# Altium integrated library Renesas Microcontroller H8.IntLib: 489 symbols (part 12 of 25)
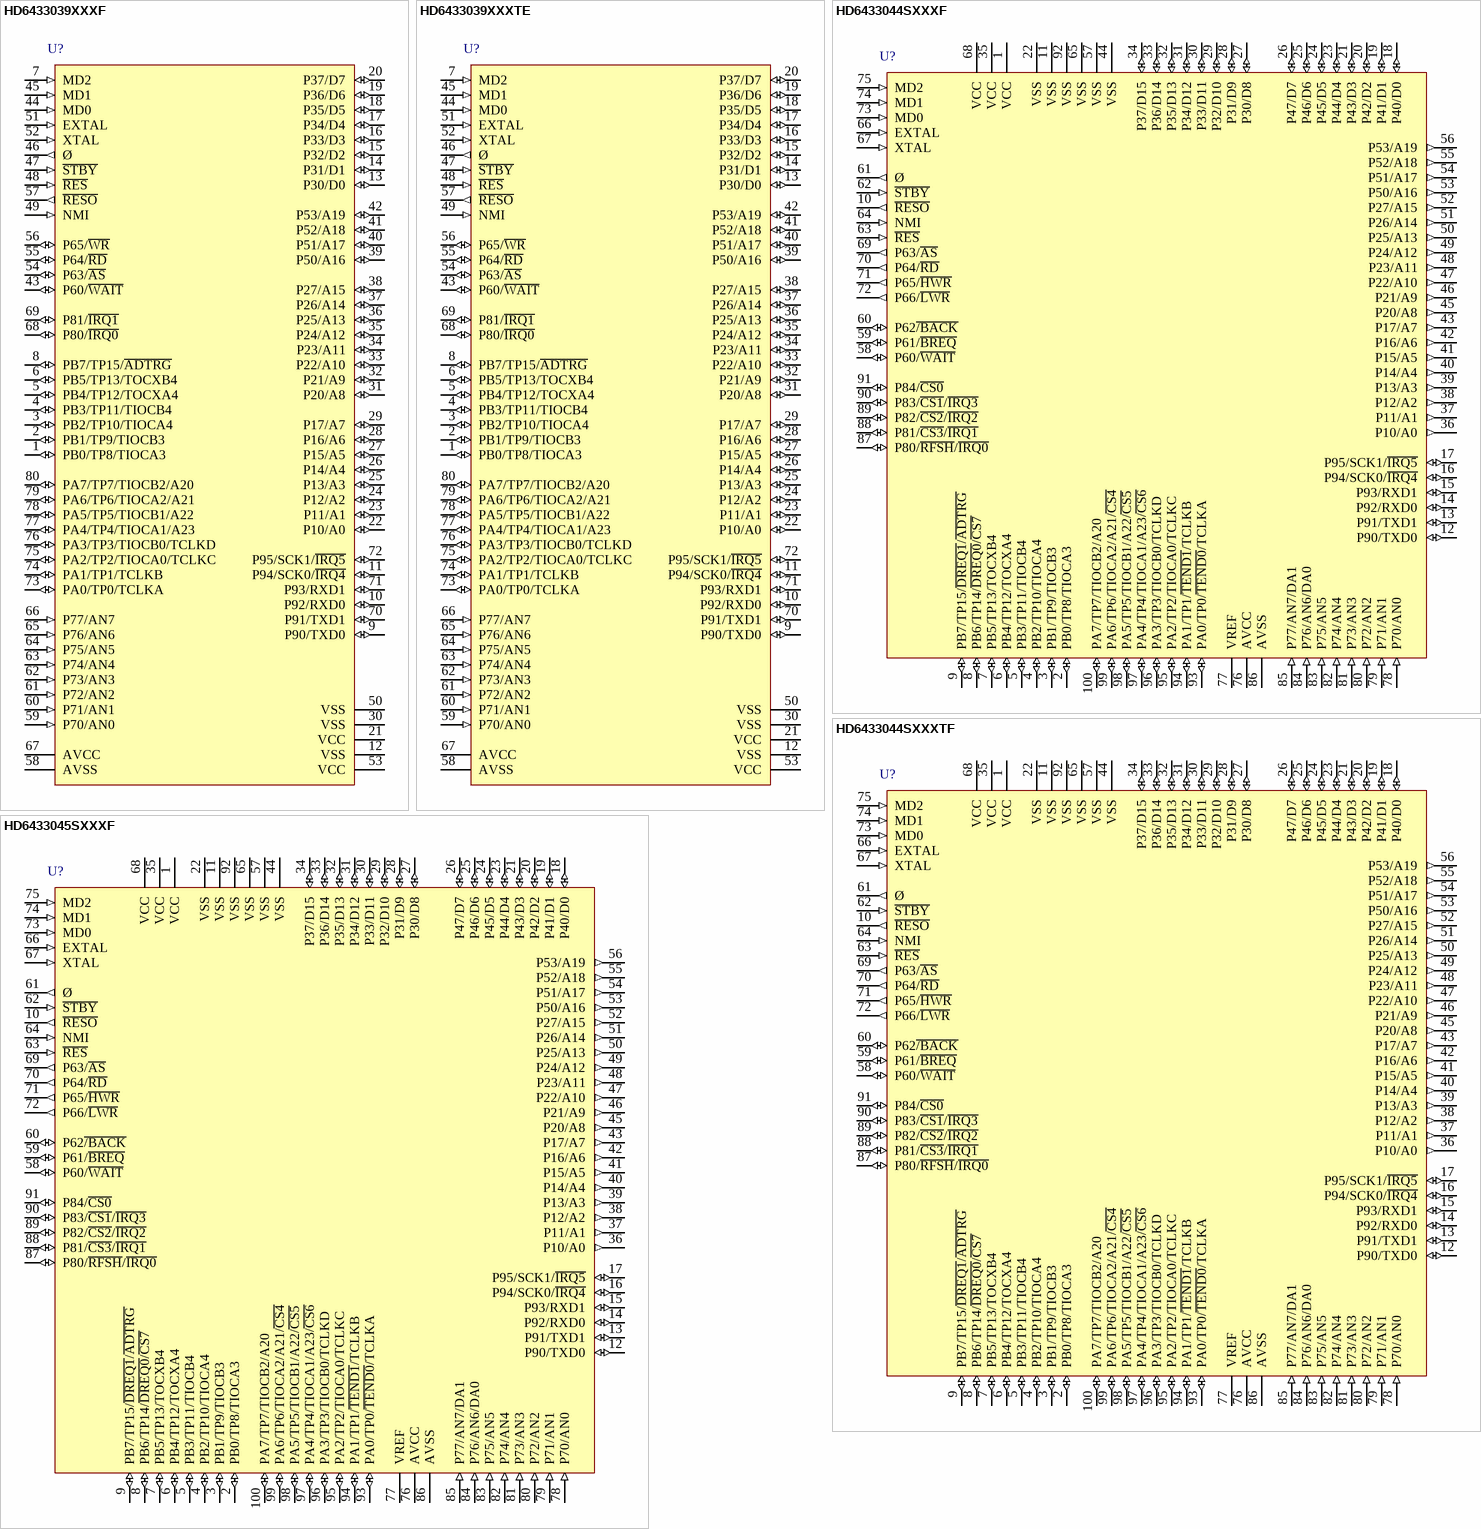
[diagram p99: symbols HD6433039XXXF to HD6433045SXXXF]

## HD6433045SXXXF
designator U?
H8 Family 32/16-bit CISC, H8/300H, 64K ROM, 2K RAM, 18MHz, 4.5 to 5.5V, 100-Pin QFP; Published: 28-Aug-2009; DatasheetVersion: Rev.3.00, Sep-2006; PackageVersion: Sep-2009; PackageReference: PRQP0100KA-A; Publisher: Altium Limited; PackageDescription: 100-Pin Plastic Quad Flat Pack, 14 x 14 x 2.7 mm Body, 0.5 mm Pitch; Code_JEITA: P-QFP100-14x14-0.50; ComponentLink1Description: Manufacturer Link; ComponentLink1URL: http://sg.renesas.com/fmwk.jsp?cnt=h8_family_landing.jsp&fp=/products/mpumcu/h8_family/; ComponentLink2Description: Datasheet; ComponentLink2URL: http://documentation.renesas.com/eng/products/mpumcu/rej09b0259_3048hm.pdf; ComponentLink3Description: Packaging Specification; ComponentLink3URL: http://sg.renesas.com/media/products/common_info/package/pdf/ic/code/prqp0100ka_a.pdf
footprint PRQP0100KA-A_N (Shrink QFP, 100-Leads, Body 14x14mm, Pitch 0.5mm, IPC Medium Density)
footprint PRQP0100KA-A_L (Shrink QFP, 100-Leads, Body 14x14mm, Pitch 0.5mm, IPC High Density)
footprint PRQP0100KA-A_M (Shrink QFP, 100-Leads, Body 14x14mm, Pitch 0.5mm, IPC Low Density)
pins: 1 VCC (power), 2 PB0/TP8/TIOCA3 (io), 3 PB1/TP9/TIOCB3 (io), 4 PB2/TP10/TIOCA4 (io), 5 PB3/TP11/TIOCB4 (io), 6 PB4/TP12/TOCXA4 (io), 7 PB5/TP13/TOCXB4 (io), 8 PB6/TP14/~{DREQ0}/~{CS7} (io), 9 PB7/TP15/~{DREQ1}/~{ADTRG} (io), 10 ~{RESO} (out), 11 VSS (power), 12 P90/TXD0 (io), 13 P91/TXD1 (io), 14 P92/RXD0 (io), 15 P93/RXD1 (io), 16 P94/SCK0/~{IRQ4} (io), 17 P95/SCK1/~{IRQ5} (io), 18 P40/D0 (io), 19 P41/D1 (io), 20 P42/D2 (io), 21 P43/D3 (io), 22 VSS (power), 23 P44/D4 (io), 24 P45/D5 (io), 25 P46/D6 (io), 26 P47/D7 (io), 27 P30/D8 (io), 28 P31/D9 (io), 29 P32/D10 (io), 30 P33/D11 (io), 31 P34/D12 (io), 32 P35/D13 (io), 33 P36/D14 (io), 34 P37/D15 (io), 35 VCC (power), 36 P10/A0 (out), 37 P11/A1 (out), 38 P12/A2 (out), 39 P13/A3 (out), 40 P14/A4 (out), 41 P15/A5 (out), 42 P16/A6 (out), 43 P17/A7 (out), 44 VSS (power), 45 P20/A8 (out), 46 P21/A9 (out), 47 P22/A10 (out), 48 P23/A11 (out), 49 P24/A12 (out), 50 P25/A13 (out), 51 P26/A14 (out), 52 P27/A15 (out), 53 P50/A16 (out), 54 P51/A17 (out), 55 P52/A18 (out), 56 P53/A19 (out), 57 VSS (power), 58 P60/~{WAIT} (io), 59 P61/~{BREQ} (io), 60 P62~{/BACK} (io), 61 Ø (out), 62 ~{STBY} (in), 63 ~{RES} (in), 64 NMI (in), 65 VSS (power), 66 EXTAL (in), 67 XTAL (in), 68 VCC (power), 69 P63/~{AS} (out), 70 P64/~{RD} (out), 71 P65/~{HWR} (out), 72 P66/~{LWR} (out), 73 MD0 (in), 74 MD1 (in), 75 MD2 (in), 76 AVCC (power), 77 VREF (power), 78 P70/AN0 (in), 79 P71/AN1 (in), 80 P72/AN2 (in), 81 P73/AN3 (in), 82 P74/AN4 (in), 83 P75/AN5 (in), 84 P76/AN6/DA0 (in), 85 P77/AN7/DA1 (in), 86 AVSS (power), 87 P80/~{RFSH}/~{IRQ0} (io), 88 P81/~{CS3}/~{IRQ1} (io), 89 P82/~{CS2}/~{IRQ2} (io), 90 P83/~{CS1}/~{IRQ3} (io), 91 P84/~{CS0} (io), 92 VSS (power), 93 PA0/TP0/~{TEND0}/TCLKA (io), 94 PA1/TP1/~{TEND1}/TCLKB (io), 95 PA2/TP2/TIOCA0/TCLKC (io), 96 PA3/TP3/TIOCB0/TCLKD (io), 97 PA4/TP4/TIOCA1/A23/~{CS6} (io), 98 PA5/TP5/TIOCB1/A22/~{CS5} (io), 99 PA6/TP6/TIOCA2/A21/~{CS4} (io), 100 PA7/TP7/TIOCB2/A20 (io)

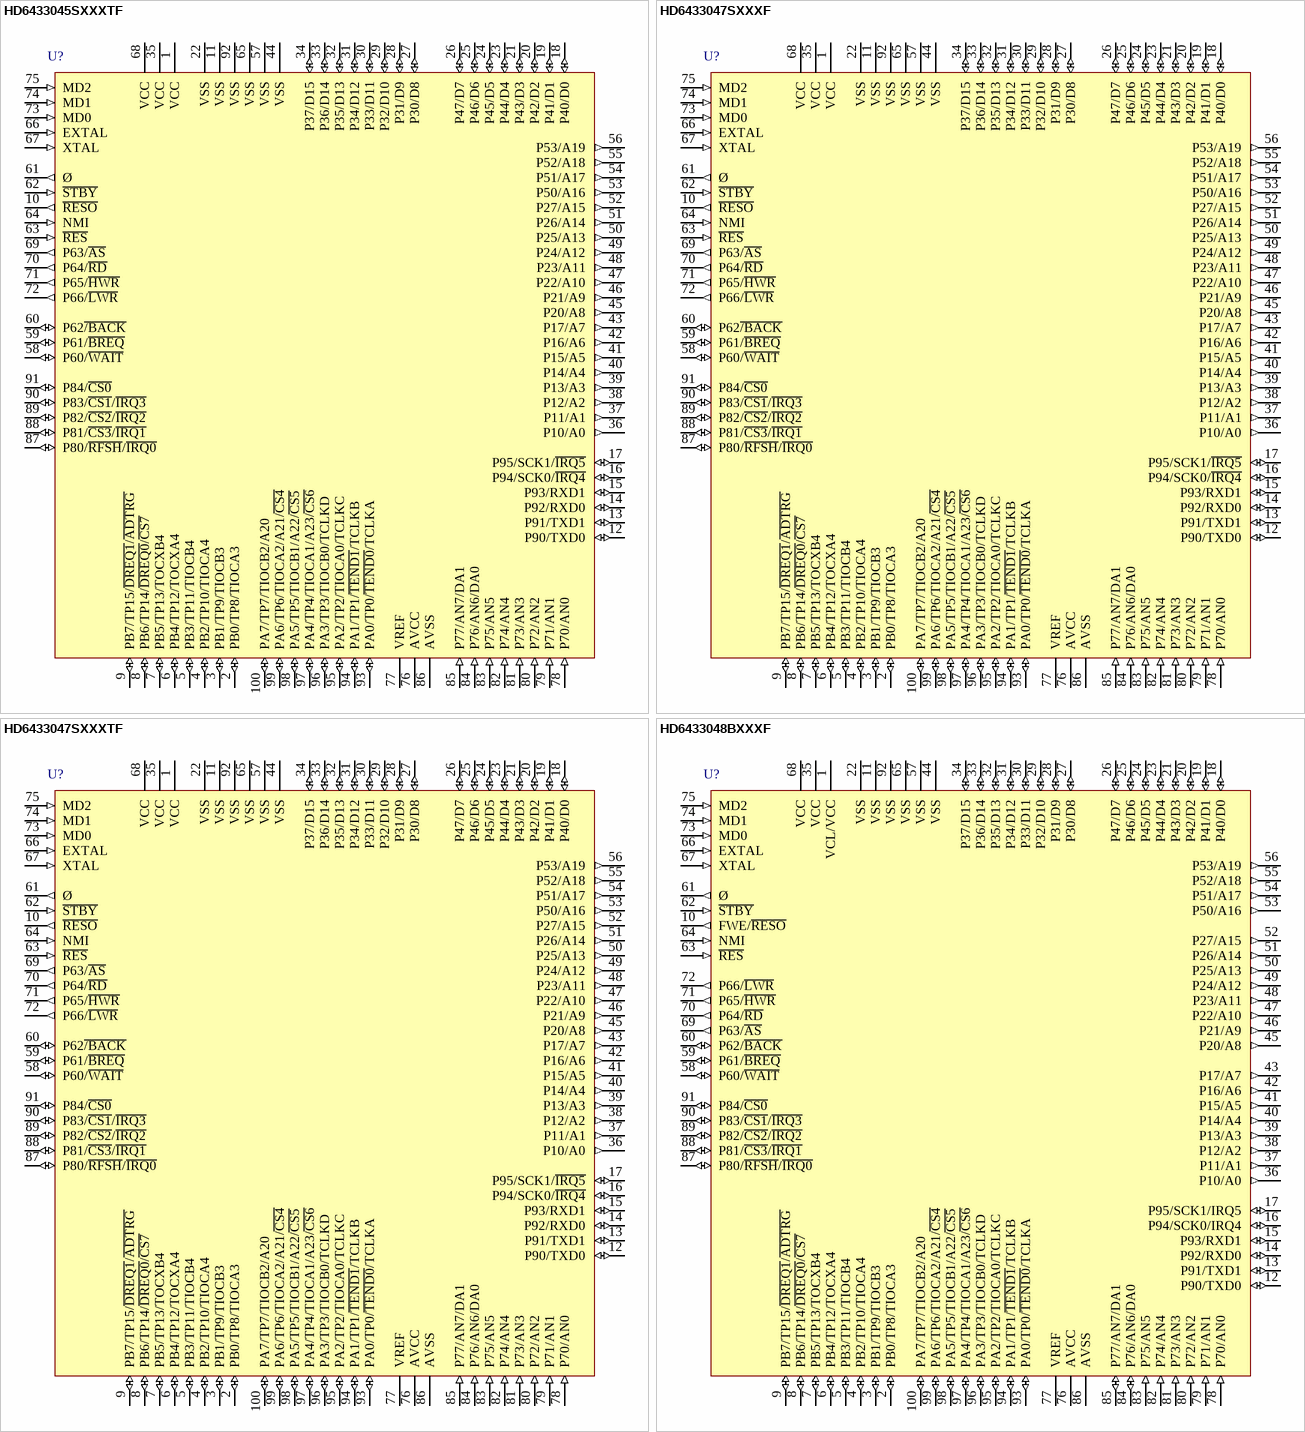
[diagram p41: symbols HD6433045SXXXTF to HD6433048BXXXF]

## HD6433045SXXXTF
designator U?
H8 Family 32/16-bit CISC, H8/300H, 64K ROM, 2K RAM, 18MHz, 4.5 to 5.5V, 100-Pin QFP; Published: 28-Aug-2009; DatasheetVersion: Rev.3.00, Sep-2006; PackageVersion: Sep-2005; PackageReference: PTQP0100KA-A; Publisher: Altium Limited; PackageDescription: 100-Pin Plastic Thin Quad Flat Pack, 14 x 14 x 1.0 mm Body, 0.5 mm Pitch; Code_JEITA: P-TQFP100-14x14-0.50; ComponentLink1Description: Manufacturer Link; ComponentLink1URL: http://sg.renesas.com/fmwk.jsp?cnt=h8_family_landing.jsp&fp=/products/mpumcu/h8_family/; ComponentLink2Description: Datasheet; ComponentLink2URL: http://documentation.renesas.com/eng/products/mpumcu/rej09b0259_3048hm.pdf; ComponentLink3Description: Packaging Specification; ComponentLink3URL: http://sg.renesas.com/media/products/common_info/package/pdf/ic/code/ptqp0100ka_a.pdf
footprint PTQP0100KA-A_N (Thin QFP, 100-Leads, Body 14x14mm, Pitch 0.5mm, IPC Medium Density)
footprint PTQP0100KA-A_L (Thin QFP, 100-Leads, Body 14x14mm, Pitch 0.5mm, IPC High Density)
footprint PTQP0100KA-A_M (Thin QFP, 100-Leads, Body 14x14mm, Pitch 0.5mm, IPC Low Density)
pins: 1 VCC (power), 2 PB0/TP8/TIOCA3 (io), 3 PB1/TP9/TIOCB3 (io), 4 PB2/TP10/TIOCA4 (io), 5 PB3/TP11/TIOCB4 (io), 6 PB4/TP12/TOCXA4 (io), 7 PB5/TP13/TOCXB4 (io), 8 PB6/TP14/~{DREQ0}/~{CS7} (io), 9 PB7/TP15/~{DREQ1}/~{ADTRG} (io), 10 ~{RESO} (out), 11 VSS (power), 12 P90/TXD0 (io), 13 P91/TXD1 (io), 14 P92/RXD0 (io), 15 P93/RXD1 (io), 16 P94/SCK0/~{IRQ4} (io), 17 P95/SCK1/~{IRQ5} (io), 18 P40/D0 (io), 19 P41/D1 (io), 20 P42/D2 (io), 21 P43/D3 (io), 22 VSS (power), 23 P44/D4 (io), 24 P45/D5 (io), 25 P46/D6 (io), 26 P47/D7 (io), 27 P30/D8 (io), 28 P31/D9 (io), 29 P32/D10 (io), 30 P33/D11 (io), 31 P34/D12 (io), 32 P35/D13 (io), 33 P36/D14 (io), 34 P37/D15 (io), 35 VCC (power), 36 P10/A0 (out), 37 P11/A1 (out), 38 P12/A2 (out), 39 P13/A3 (out), 40 P14/A4 (out), 41 P15/A5 (out), 42 P16/A6 (out), 43 P17/A7 (out), 44 VSS (power), 45 P20/A8 (out), 46 P21/A9 (out), 47 P22/A10 (out), 48 P23/A11 (out), 49 P24/A12 (out), 50 P25/A13 (out), 51 P26/A14 (out), 52 P27/A15 (out), 53 P50/A16 (out), 54 P51/A17 (out), 55 P52/A18 (out), 56 P53/A19 (out), 57 VSS (power), 58 P60/~{WAIT} (io), 59 P61/~{BREQ} (io), 60 P62~{/BACK} (io), 61 Ø (out), 62 ~{STBY} (in), 63 ~{RES} (in), 64 NMI (in), 65 VSS (power), 66 EXTAL (in), 67 XTAL (in), 68 VCC (power), 69 P63/~{AS} (out), 70 P64/~{RD} (out), 71 P65/~{HWR} (out), 72 P66/~{LWR} (out), 73 MD0 (in), 74 MD1 (in), 75 MD2 (in), 76 AVCC (power), 77 VREF (power), 78 P70/AN0 (in), 79 P71/AN1 (in), 80 P72/AN2 (in), 81 P73/AN3 (in), 82 P74/AN4 (in), 83 P75/AN5 (in), 84 P76/AN6/DA0 (in), 85 P77/AN7/DA1 (in), 86 AVSS (power), 87 P80/~{RFSH}/~{IRQ0} (io), 88 P81/~{CS3}/~{IRQ1} (io), 89 P82/~{CS2}/~{IRQ2} (io), 90 P83/~{CS1}/~{IRQ3} (io), 91 P84/~{CS0} (io), 92 VSS (power), 93 PA0/TP0/~{TEND0}/TCLKA (io), 94 PA1/TP1/~{TEND1}/TCLKB (io), 95 PA2/TP2/TIOCA0/TCLKC (io), 96 PA3/TP3/TIOCB0/TCLKD (io), 97 PA4/TP4/TIOCA1/A23/~{CS6} (io), 98 PA5/TP5/TIOCB1/A22/~{CS5} (io), 99 PA6/TP6/TIOCA2/A21/~{CS4} (io), 100 PA7/TP7/TIOCB2/A20 (io)

## HD6433047SXXXF
designator U?
H8 Family 32/16-bit CISC, H8/300H, 96K ROM, 4K RAM, 18MHz, 4.5 to 5.5V, 100-Pin QFP; Published: 28-Aug-2009; DatasheetVersion: Rev.3.00, Sep-2006; PackageVersion: Sep-2009; PackageReference: PRQP0100KA-A; Publisher: Altium Limited; PackageDescription: 100-Pin Plastic Quad Flat Pack, 14 x 14 x 2.7 mm Body, 0.5 mm Pitch; Code_JEITA: P-QFP100-14x14-0.50; ComponentLink1Description: Manufacturer Link; ComponentLink1URL: http://sg.renesas.com/fmwk.jsp?cnt=h8_family_landing.jsp&fp=/products/mpumcu/h8_family/; ComponentLink2Description: Datasheet; ComponentLink2URL: http://documentation.renesas.com/eng/products/mpumcu/rej09b0259_3048hm.pdf; ComponentLink3Description: Packaging Specification; ComponentLink3URL: http://sg.renesas.com/media/products/common_info/package/pdf/ic/code/prqp0100ka_a.pdf
footprint PRQP0100KA-A_N (Shrink QFP, 100-Leads, Body 14x14mm, Pitch 0.5mm, IPC Medium Density)
footprint PRQP0100KA-A_L (Shrink QFP, 100-Leads, Body 14x14mm, Pitch 0.5mm, IPC High Density)
footprint PRQP0100KA-A_M (Shrink QFP, 100-Leads, Body 14x14mm, Pitch 0.5mm, IPC Low Density)
pins: 1 VCC (power), 2 PB0/TP8/TIOCA3 (io), 3 PB1/TP9/TIOCB3 (io), 4 PB2/TP10/TIOCA4 (io), 5 PB3/TP11/TIOCB4 (io), 6 PB4/TP12/TOCXA4 (io), 7 PB5/TP13/TOCXB4 (io), 8 PB6/TP14/~{DREQ0}/~{CS7} (io), 9 PB7/TP15/~{DREQ1}/~{ADTRG} (io), 10 ~{RESO} (out), 11 VSS (power), 12 P90/TXD0 (io), 13 P91/TXD1 (io), 14 P92/RXD0 (io), 15 P93/RXD1 (io), 16 P94/SCK0/~{IRQ4} (io), 17 P95/SCK1/~{IRQ5} (io), 18 P40/D0 (io), 19 P41/D1 (io), 20 P42/D2 (io), 21 P43/D3 (io), 22 VSS (power), 23 P44/D4 (io), 24 P45/D5 (io), 25 P46/D6 (io), 26 P47/D7 (io), 27 P30/D8 (io), 28 P31/D9 (io), 29 P32/D10 (io), 30 P33/D11 (io), 31 P34/D12 (io), 32 P35/D13 (io), 33 P36/D14 (io), 34 P37/D15 (io), 35 VCC (power), 36 P10/A0 (out), 37 P11/A1 (out), 38 P12/A2 (out), 39 P13/A3 (out), 40 P14/A4 (out), 41 P15/A5 (out), 42 P16/A6 (out), 43 P17/A7 (out), 44 VSS (power), 45 P20/A8 (out), 46 P21/A9 (out), 47 P22/A10 (out), 48 P23/A11 (out), 49 P24/A12 (out), 50 P25/A13 (out), 51 P26/A14 (out), 52 P27/A15 (out), 53 P50/A16 (out), 54 P51/A17 (out), 55 P52/A18 (out), 56 P53/A19 (out), 57 VSS (power), 58 P60/~{WAIT} (io), 59 P61/~{BREQ} (io), 60 P62~{/BACK} (io), 61 Ø (out), 62 ~{STBY} (in), 63 ~{RES} (in), 64 NMI (in), 65 VSS (power), 66 EXTAL (in), 67 XTAL (in), 68 VCC (power), 69 P63/~{AS} (out), 70 P64/~{RD} (out), 71 P65/~{HWR} (out), 72 P66/~{LWR} (out), 73 MD0 (in), 74 MD1 (in), 75 MD2 (in), 76 AVCC (power), 77 VREF (power), 78 P70/AN0 (in), 79 P71/AN1 (in), 80 P72/AN2 (in), 81 P73/AN3 (in), 82 P74/AN4 (in), 83 P75/AN5 (in), 84 P76/AN6/DA0 (in), 85 P77/AN7/DA1 (in), 86 AVSS (power), 87 P80/~{RFSH}/~{IRQ0} (io), 88 P81/~{CS3}/~{IRQ1} (io), 89 P82/~{CS2}/~{IRQ2} (io), 90 P83/~{CS1}/~{IRQ3} (io), 91 P84/~{CS0} (io), 92 VSS (power), 93 PA0/TP0/~{TEND0}/TCLKA (io), 94 PA1/TP1/~{TEND1}/TCLKB (io), 95 PA2/TP2/TIOCA0/TCLKC (io), 96 PA3/TP3/TIOCB0/TCLKD (io), 97 PA4/TP4/TIOCA1/A23/~{CS6} (io), 98 PA5/TP5/TIOCB1/A22/~{CS5} (io), 99 PA6/TP6/TIOCA2/A21/~{CS4} (io), 100 PA7/TP7/TIOCB2/A20 (io)

## HD6433047SXXXTF
designator U?
H8 Family 32/16-bit CISC, H8/300H, 96K ROM, 4K RAM, 18MHz, 4.5 to 5.5V, 100-Pin QFP; Published: 28-Aug-2009; DatasheetVersion: Rev.3.00, Sep-2006; PackageVersion: Sep-2005; PackageReference: PTQP0100KA-A; Publisher: Altium Limited; PackageDescription: 100-Pin Plastic Thin Quad Flat Pack, 14 x 14 x 1.0 mm Body, 0.5 mm Pitch; Code_JEITA: P-TQFP100-14x14-0.50; ComponentLink1Description: Manufacturer Link; ComponentLink1URL: http://sg.renesas.com/fmwk.jsp?cnt=h8_family_landing.jsp&fp=/products/mpumcu/h8_family/; ComponentLink2Description: Datasheet; ComponentLink2URL: http://documentation.renesas.com/eng/products/mpumcu/rej09b0259_3048hm.pdf; ComponentLink3Description: Packaging Specification; ComponentLink3URL: http://sg.renesas.com/media/products/common_info/package/pdf/ic/code/ptqp0100ka_a.pdf
footprint PTQP0100KA-A_N (Thin QFP, 100-Leads, Body 14x14mm, Pitch 0.5mm, IPC Medium Density)
footprint PTQP0100KA-A_L (Thin QFP, 100-Leads, Body 14x14mm, Pitch 0.5mm, IPC High Density)
footprint PTQP0100KA-A_M (Thin QFP, 100-Leads, Body 14x14mm, Pitch 0.5mm, IPC Low Density)
pins: 1 VCC (power), 2 PB0/TP8/TIOCA3 (io), 3 PB1/TP9/TIOCB3 (io), 4 PB2/TP10/TIOCA4 (io), 5 PB3/TP11/TIOCB4 (io), 6 PB4/TP12/TOCXA4 (io), 7 PB5/TP13/TOCXB4 (io), 8 PB6/TP14/~{DREQ0}/~{CS7} (io), 9 PB7/TP15/~{DREQ1}/~{ADTRG} (io), 10 ~{RESO} (out), 11 VSS (power), 12 P90/TXD0 (io), 13 P91/TXD1 (io), 14 P92/RXD0 (io), 15 P93/RXD1 (io), 16 P94/SCK0/~{IRQ4} (io), 17 P95/SCK1/~{IRQ5} (io), 18 P40/D0 (io), 19 P41/D1 (io), 20 P42/D2 (io), 21 P43/D3 (io), 22 VSS (power), 23 P44/D4 (io), 24 P45/D5 (io), 25 P46/D6 (io), 26 P47/D7 (io), 27 P30/D8 (io), 28 P31/D9 (io), 29 P32/D10 (io), 30 P33/D11 (io), 31 P34/D12 (io), 32 P35/D13 (io), 33 P36/D14 (io), 34 P37/D15 (io), 35 VCC (power), 36 P10/A0 (out), 37 P11/A1 (out), 38 P12/A2 (out), 39 P13/A3 (out), 40 P14/A4 (out), 41 P15/A5 (out), 42 P16/A6 (out), 43 P17/A7 (out), 44 VSS (power), 45 P20/A8 (out), 46 P21/A9 (out), 47 P22/A10 (out), 48 P23/A11 (out), 49 P24/A12 (out), 50 P25/A13 (out), 51 P26/A14 (out), 52 P27/A15 (out), 53 P50/A16 (out), 54 P51/A17 (out), 55 P52/A18 (out), 56 P53/A19 (out), 57 VSS (power), 58 P60/~{WAIT} (io), 59 P61/~{BREQ} (io), 60 P62~{/BACK} (io), 61 Ø (out), 62 ~{STBY} (in), 63 ~{RES} (in), 64 NMI (in), 65 VSS (power), 66 EXTAL (in), 67 XTAL (in), 68 VCC (power), 69 P63/~{AS} (out), 70 P64/~{RD} (out), 71 P65/~{HWR} (out), 72 P66/~{LWR} (out), 73 MD0 (in), 74 MD1 (in), 75 MD2 (in), 76 AVCC (power), 77 VREF (power), 78 P70/AN0 (in), 79 P71/AN1 (in), 80 P72/AN2 (in), 81 P73/AN3 (in), 82 P74/AN4 (in), 83 P75/AN5 (in), 84 P76/AN6/DA0 (in), 85 P77/AN7/DA1 (in), 86 AVSS (power), 87 P80/~{RFSH}/~{IRQ0} (io), 88 P81/~{CS3}/~{IRQ1} (io), 89 P82/~{CS2}/~{IRQ2} (io), 90 P83/~{CS1}/~{IRQ3} (io), 91 P84/~{CS0} (io), 92 VSS (power), 93 PA0/TP0/~{TEND0}/TCLKA (io), 94 PA1/TP1/~{TEND1}/TCLKB (io), 95 PA2/TP2/TIOCA0/TCLKC (io), 96 PA3/TP3/TIOCB0/TCLKD (io), 97 PA4/TP4/TIOCA1/A23/~{CS6} (io), 98 PA5/TP5/TIOCB1/A22/~{CS5} (io), 99 PA6/TP6/TIOCA2/A21/~{CS4} (io), 100 PA7/TP7/TIOCB2/A20 (io)

## HD6433048BXXXF
designator U?
H8 Family 32/16-bit CISC, H8/300H, 128K ROM, 4K RAM, 25MHz, 4.5 to 5.5V, 100-Pin QFP; Published: 28-Aug-2009; DatasheetVersion: Rev.3.00, Sep-2006; PackageVersion: Sep-2009; PackageReference: PRQP0100KA-A; Publisher: Altium Limited; PackageDescription: 100-Pin Plastic Quad Flat Pack, 14 x 14 x 2.7 mm Body, 0.5 mm Pitch; Code_JEITA: P-QFP100-14x14-0.50; ComponentLink1Description: Manufacturer Link; ComponentLink1URL: http://sg.renesas.com/fmwk.jsp?cnt=h8_family_landing.jsp&fp=/products/mpumcu/h8_family/; ComponentLink2Description: Datasheet; ComponentLink2URL: http://documentation.renesas.com/eng/products/mpumcu/rej09b0325_3048bhm.pdf; ComponentLink3Description: Packaging Specification; ComponentLink3URL: http://sg.renesas.com/media/products/common_info/package/pdf/ic/code/prqp0100ka_a.pdf
footprint PRQP0100KA-A_N (Shrink QFP, 100-Leads, Body 14x14mm, Pitch 0.5mm, IPC Medium Density)
footprint PRQP0100KA-A_L (Shrink QFP, 100-Leads, Body 14x14mm, Pitch 0.5mm, IPC High Density)
footprint PRQP0100KA-A_M (Shrink QFP, 100-Leads, Body 14x14mm, Pitch 0.5mm, IPC Low Density)
pins: 1 VCL/VCC (power), 2 PB0/TP8/TIOCA3 (io), 3 PB1/TP9/TIOCB3 (io), 4 PB2/TP10/TIOCA4 (io), 5 PB3/TP11/TIOCB4 (io), 6 PB4/TP12/TOCXA4 (io), 7 PB5/TP13/TOCXB4 (io), 8 PB6/TP14/~{DREQ0}/~{CS7} (io), 9 PB7/TP15/~{DREQ1}/~{ADTRG} (io), 10 FWE/~{RESO} (out), 11 VSS (power), 12 P90/TXD0 (io), 13 P91/TXD1 (io), 14 P92/RXD0 (io), 15 P93/RXD1 (io), 16 P94/SCK0/IRQ4 (io), 17 P95/SCK1/IRQ5 (io), 18 P40/D0 (io), 19 P41/D1 (io), 20 P42/D2 (io), 21 P43/D3 (io), 22 VSS (power), 23 P44/D4 (io), 24 P45/D5 (io), 25 P46/D6 (io), 26 P47/D7 (io), 27 P30/D8 (io), 28 P31/D9 (io), 29 P32/D10 (io), 30 P33/D11 (io), 31 P34/D12 (io), 32 P35/D13 (io), 33 P36/D14 (io), 34 P37/D15 (io), 35 VCC (power), 36 P10/A0 (out), 37 P11/A1 (out), 38 P12/A2 (out), 39 P13/A3 (out), 40 P14/A4 (out), 41 P15/A5 (out), 42 P16/A6 (out), 43 P17/A7 (out), 44 VSS (power), 45 P20/A8 (out), 46 P21/A9 (out), 47 P22/A10 (out), 48 P23/A11 (out), 49 P24/A12 (out), 50 P25/A13 (out), 51 P26/A14 (out), 52 P27/A15 (out), 53 P50/A16 (out), 54 P51/A17 (out), 55 P52/A18 (out), 56 P53/A19 (out), 57 VSS (power), 58 P60/~{WAIT} (io), 59 P61/~{BREQ} (io), 60 P62/~{BACK} (io), 61 Ø (out), 62 ~{STBY} (in), 63 ~{RES} (in), 64 NMI (in), 65 VSS (power), 66 EXTAL (in), 67 XTAL (in), 68 VCC (power), 69 P63/~{AS} (out), 70 P64/~{RD} (out), 71 P65/~{HWR} (out), 72 P66/~{LWR} (out), 73 MD0 (in), 74 MD1 (in), 75 MD2 (in), 76 AVCC (power), 77 VREF (power), 78 P70/AN0 (in), 79 P71/AN1 (in), 80 P72/AN2 (in), 81 P73/AN3 (in), 82 P74/AN4 (in), 83 P75/AN5 (in), 84 P76/AN6/DA0 (io), 85 P77/AN7/DA1 (io), 86 AVSS (power), 87 P80/~{RFSH}/~{IRQ0} (io), 88 P81/~{CS3}/~{IRQ1} (io), 89 P82/~{CS2}/~{IRQ2} (io), 90 P83/~{CS1}/~{IRQ3} (io), 91 P84/~{CS0} (io), 92 VSS (power), 93 PA0/TP0/~{TEND0}/TCLKA (io), 94 PA1/TP1/~{TEND1}/TCLKB (io), 95 PA2/TP2/TIOCA0/TCLKC (io), 96 PA3/TP3/TIOCB0/TCLKD (io), 97 PA4/TP4/TIOCA1/A23/~{CS6} (io), 98 PA5/TP5/TIOCB1/A22/~{CS5} (io), 99 PA6/TP6/TIOCA2/A21/~{CS4} (io), 100 PA7/TP7/TIOCB2/A20 (io)

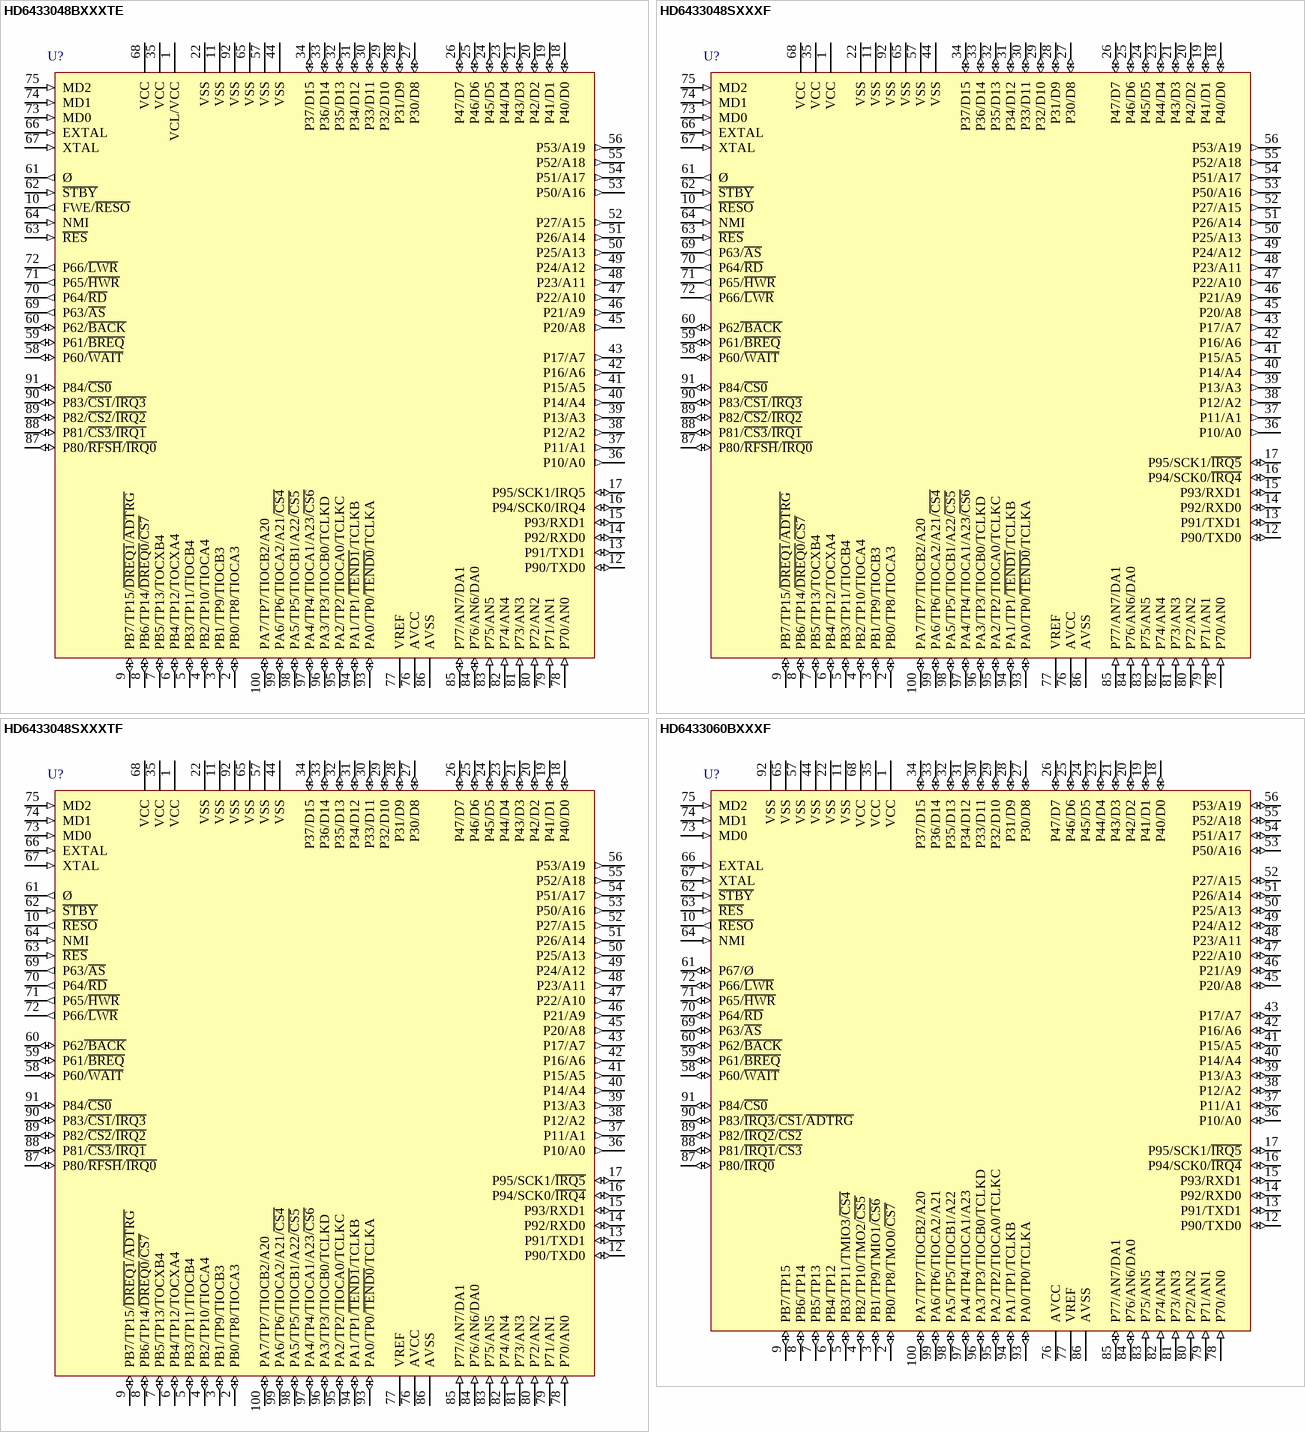
[diagram p42: symbols HD6433048BXXXTE to HD6433060BXXXF]

## HD6433048BXXXTE
designator U?
H8 Family 32/16-bit CISC, H8/300H, 128K ROM, 4K RAM, 25MHz, 4.5 to 5.5V, 100-Pin QFP; Published: 28-Aug-2009; DatasheetVersion: Rev.3.00, Sep-2006; PackageVersion: Sep-2005; PackageReference: PTQP0100KA-A; Publisher: Altium Limited; PackageDescription: 100-Pin Plastic Thin Quad Flat Pack, 14 x 14 x 1.0 mm Body, 0.5 mm Pitch; Code_JEITA: P-TQFP100-14x14-0.50; ComponentLink1Description: Manufacturer Link; ComponentLink1URL: http://sg.renesas.com/fmwk.jsp?cnt=h8_family_landing.jsp&fp=/products/mpumcu/h8_family/; ComponentLink2Description: Datasheet; ComponentLink2URL: http://documentation.renesas.com/eng/products/mpumcu/rej09b0325_3048bhm.pdf; ComponentLink3Description: Packaging Specification; ComponentLink3URL: http://sg.renesas.com/media/products/common_info/package/pdf/ic/code/ptqp0100ka_a.pdf
footprint PTQP0100KA-A_N (Thin QFP, 100-Leads, Body 14x14mm, Pitch 0.5mm, IPC Medium Density)
footprint PTQP0100KA-A_L (Thin QFP, 100-Leads, Body 14x14mm, Pitch 0.5mm, IPC High Density)
footprint PTQP0100KA-A_M (Thin QFP, 100-Leads, Body 14x14mm, Pitch 0.5mm, IPC Low Density)
pins: 1 VCL/VCC (power), 2 PB0/TP8/TIOCA3 (io), 3 PB1/TP9/TIOCB3 (io), 4 PB2/TP10/TIOCA4 (io), 5 PB3/TP11/TIOCB4 (io), 6 PB4/TP12/TOCXA4 (io), 7 PB5/TP13/TOCXB4 (io), 8 PB6/TP14/~{DREQ0}/~{CS7} (io), 9 PB7/TP15/~{DREQ1}/~{ADTRG} (io), 10 FWE/~{RESO} (out), 11 VSS (power), 12 P90/TXD0 (io), 13 P91/TXD1 (io), 14 P92/RXD0 (io), 15 P93/RXD1 (io), 16 P94/SCK0/IRQ4 (io), 17 P95/SCK1/IRQ5 (io), 18 P40/D0 (io), 19 P41/D1 (io), 20 P42/D2 (io), 21 P43/D3 (io), 22 VSS (power), 23 P44/D4 (io), 24 P45/D5 (io), 25 P46/D6 (io), 26 P47/D7 (io), 27 P30/D8 (io), 28 P31/D9 (io), 29 P32/D10 (io), 30 P33/D11 (io), 31 P34/D12 (io), 32 P35/D13 (io), 33 P36/D14 (io), 34 P37/D15 (io), 35 VCC (power), 36 P10/A0 (out), 37 P11/A1 (out), 38 P12/A2 (out), 39 P13/A3 (out), 40 P14/A4 (out), 41 P15/A5 (out), 42 P16/A6 (out), 43 P17/A7 (out), 44 VSS (power), 45 P20/A8 (out), 46 P21/A9 (out), 47 P22/A10 (out), 48 P23/A11 (out), 49 P24/A12 (out), 50 P25/A13 (out), 51 P26/A14 (out), 52 P27/A15 (out), 53 P50/A16 (out), 54 P51/A17 (out), 55 P52/A18 (out), 56 P53/A19 (out), 57 VSS (power), 58 P60/~{WAIT} (io), 59 P61/~{BREQ} (io), 60 P62/~{BACK} (io), 61 Ø (out), 62 ~{STBY} (in), 63 ~{RES} (in), 64 NMI (in), 65 VSS (power), 66 EXTAL (in), 67 XTAL (in), 68 VCC (power), 69 P63/~{AS} (out), 70 P64/~{RD} (out), 71 P65/~{HWR} (out), 72 P66/~{LWR} (out), 73 MD0 (in), 74 MD1 (in), 75 MD2 (in), 76 AVCC (power), 77 VREF (power), 78 P70/AN0 (in), 79 P71/AN1 (in), 80 P72/AN2 (in), 81 P73/AN3 (in), 82 P74/AN4 (in), 83 P75/AN5 (in), 84 P76/AN6/DA0 (io), 85 P77/AN7/DA1 (io), 86 AVSS (power), 87 P80/~{RFSH}/~{IRQ0} (io), 88 P81/~{CS3}/~{IRQ1} (io), 89 P82/~{CS2}/~{IRQ2} (io), 90 P83/~{CS1}/~{IRQ3} (io), 91 P84/~{CS0} (io), 92 VSS (power), 93 PA0/TP0/~{TEND0}/TCLKA (io), 94 PA1/TP1/~{TEND1}/TCLKB (io), 95 PA2/TP2/TIOCA0/TCLKC (io), 96 PA3/TP3/TIOCB0/TCLKD (io), 97 PA4/TP4/TIOCA1/A23/~{CS6} (io), 98 PA5/TP5/TIOCB1/A22/~{CS5} (io), 99 PA6/TP6/TIOCA2/A21/~{CS4} (io), 100 PA7/TP7/TIOCB2/A20 (io)

## HD6433048SXXXF
designator U?
H8 Family 32/16-bit CISC, H8/300H, 128K ROM, 4K RAM, 18MHz, 4.5 to 5.5V, 100-Pin QFP; Published: 28-Aug-2009; DatasheetVersion: Rev.3.00, Sep-2006; PackageVersion: Sep-2009; PackageReference: PRQP0100KA-A; Publisher: Altium Limited; PackageDescription: 100-Pin Plastic Quad Flat Pack, 14 x 14 x 2.7 mm Body, 0.5 mm Pitch; Code_JEITA: P-QFP100-14x14-0.50; ComponentLink1Description: Manufacturer Link; ComponentLink1URL: http://sg.renesas.com/fmwk.jsp?cnt=h8_family_landing.jsp&fp=/products/mpumcu/h8_family/; ComponentLink2Description: Datasheet; ComponentLink2URL: http://documentation.renesas.com/eng/products/mpumcu/rej09b0259_3048hm.pdf; ComponentLink3Description: Packaging Specification; ComponentLink3URL: http://sg.renesas.com/media/products/common_info/package/pdf/ic/code/prqp0100ka_a.pdf
footprint PRQP0100KA-A_N (Shrink QFP, 100-Leads, Body 14x14mm, Pitch 0.5mm, IPC Medium Density)
footprint PRQP0100KA-A_L (Shrink QFP, 100-Leads, Body 14x14mm, Pitch 0.5mm, IPC High Density)
footprint PRQP0100KA-A_M (Shrink QFP, 100-Leads, Body 14x14mm, Pitch 0.5mm, IPC Low Density)
pins: 1 VCC (power), 2 PB0/TP8/TIOCA3 (io), 3 PB1/TP9/TIOCB3 (io), 4 PB2/TP10/TIOCA4 (io), 5 PB3/TP11/TIOCB4 (io), 6 PB4/TP12/TOCXA4 (io), 7 PB5/TP13/TOCXB4 (io), 8 PB6/TP14/~{DREQ0}/~{CS7} (io), 9 PB7/TP15/~{DREQ1}/~{ADTRG} (io), 10 ~{RESO} (out), 11 VSS (power), 12 P90/TXD0 (io), 13 P91/TXD1 (io), 14 P92/RXD0 (io), 15 P93/RXD1 (io), 16 P94/SCK0/~{IRQ4} (io), 17 P95/SCK1/~{IRQ5} (io), 18 P40/D0 (io), 19 P41/D1 (io), 20 P42/D2 (io), 21 P43/D3 (io), 22 VSS (power), 23 P44/D4 (io), 24 P45/D5 (io), 25 P46/D6 (io), 26 P47/D7 (io), 27 P30/D8 (io), 28 P31/D9 (io), 29 P32/D10 (io), 30 P33/D11 (io), 31 P34/D12 (io), 32 P35/D13 (io), 33 P36/D14 (io), 34 P37/D15 (io), 35 VCC (power), 36 P10/A0 (out), 37 P11/A1 (out), 38 P12/A2 (out), 39 P13/A3 (out), 40 P14/A4 (out), 41 P15/A5 (out), 42 P16/A6 (out), 43 P17/A7 (out), 44 VSS (power), 45 P20/A8 (out), 46 P21/A9 (out), 47 P22/A10 (out), 48 P23/A11 (out), 49 P24/A12 (out), 50 P25/A13 (out), 51 P26/A14 (out), 52 P27/A15 (out), 53 P50/A16 (out), 54 P51/A17 (out), 55 P52/A18 (out), 56 P53/A19 (out), 57 VSS (power), 58 P60/~{WAIT} (io), 59 P61/~{BREQ} (io), 60 P62~{/BACK} (io), 61 Ø (out), 62 ~{STBY} (in), 63 ~{RES} (in), 64 NMI (in), 65 VSS (power), 66 EXTAL (in), 67 XTAL (in), 68 VCC (power), 69 P63/~{AS} (out), 70 P64/~{RD} (out), 71 P65/~{HWR} (out), 72 P66/~{LWR} (out), 73 MD0 (in), 74 MD1 (in), 75 MD2 (in), 76 AVCC (power), 77 VREF (power), 78 P70/AN0 (in), 79 P71/AN1 (in), 80 P72/AN2 (in), 81 P73/AN3 (in), 82 P74/AN4 (in), 83 P75/AN5 (in), 84 P76/AN6/DA0 (in), 85 P77/AN7/DA1 (in), 86 AVSS (power), 87 P80/~{RFSH}/~{IRQ0} (io), 88 P81/~{CS3}/~{IRQ1} (io), 89 P82/~{CS2}/~{IRQ2} (io), 90 P83/~{CS1}/~{IRQ3} (io), 91 P84/~{CS0} (io), 92 VSS (power), 93 PA0/TP0/~{TEND0}/TCLKA (io), 94 PA1/TP1/~{TEND1}/TCLKB (io), 95 PA2/TP2/TIOCA0/TCLKC (io), 96 PA3/TP3/TIOCB0/TCLKD (io), 97 PA4/TP4/TIOCA1/A23/~{CS6} (io), 98 PA5/TP5/TIOCB1/A22/~{CS5} (io), 99 PA6/TP6/TIOCA2/A21/~{CS4} (io), 100 PA7/TP7/TIOCB2/A20 (io)

## HD6433048SXXXTF
designator U?
H8 Family 32/16-bit CISC, H8/300H, 128K ROM, 4K RAM, 18MHz, 4.5 to 5.5V, 100-Pin QFP; Published: 28-Aug-2009; DatasheetVersion: Rev.3.00, Sep-2006; PackageVersion: Sep-2005; PackageReference: PTQP0100KA-A; Publisher: Altium Limited; PackageDescription: 100-Pin Plastic Thin Quad Flat Pack, 14 x 14 x 1.0 mm Body, 0.5 mm Pitch; Code_JEITA: P-TQFP100-14x14-0.50; ComponentLink1Description: Manufacturer Link; ComponentLink1URL: http://sg.renesas.com/fmwk.jsp?cnt=h8_family_landing.jsp&fp=/products/mpumcu/h8_family/; ComponentLink2Description: Datasheet; ComponentLink2URL: http://documentation.renesas.com/eng/products/mpumcu/rej09b0259_3048hm.pdf; ComponentLink3Description: Packaging Specification; ComponentLink3URL: http://sg.renesas.com/media/products/common_info/package/pdf/ic/code/ptqp0100ka_a.pdf
footprint PTQP0100KA-A_N (Thin QFP, 100-Leads, Body 14x14mm, Pitch 0.5mm, IPC Medium Density)
footprint PTQP0100KA-A_L (Thin QFP, 100-Leads, Body 14x14mm, Pitch 0.5mm, IPC High Density)
footprint PTQP0100KA-A_M (Thin QFP, 100-Leads, Body 14x14mm, Pitch 0.5mm, IPC Low Density)
pins: 1 VCC (power), 2 PB0/TP8/TIOCA3 (io), 3 PB1/TP9/TIOCB3 (io), 4 PB2/TP10/TIOCA4 (io), 5 PB3/TP11/TIOCB4 (io), 6 PB4/TP12/TOCXA4 (io), 7 PB5/TP13/TOCXB4 (io), 8 PB6/TP14/~{DREQ0}/~{CS7} (io), 9 PB7/TP15/~{DREQ1}/~{ADTRG} (io), 10 ~{RESO} (out), 11 VSS (power), 12 P90/TXD0 (io), 13 P91/TXD1 (io), 14 P92/RXD0 (io), 15 P93/RXD1 (io), 16 P94/SCK0/~{IRQ4} (io), 17 P95/SCK1/~{IRQ5} (io), 18 P40/D0 (io), 19 P41/D1 (io), 20 P42/D2 (io), 21 P43/D3 (io), 22 VSS (power), 23 P44/D4 (io), 24 P45/D5 (io), 25 P46/D6 (io), 26 P47/D7 (io), 27 P30/D8 (io), 28 P31/D9 (io), 29 P32/D10 (io), 30 P33/D11 (io), 31 P34/D12 (io), 32 P35/D13 (io), 33 P36/D14 (io), 34 P37/D15 (io), 35 VCC (power), 36 P10/A0 (out), 37 P11/A1 (out), 38 P12/A2 (out), 39 P13/A3 (out), 40 P14/A4 (out), 41 P15/A5 (out), 42 P16/A6 (out), 43 P17/A7 (out), 44 VSS (power), 45 P20/A8 (out), 46 P21/A9 (out), 47 P22/A10 (out), 48 P23/A11 (out), 49 P24/A12 (out), 50 P25/A13 (out), 51 P26/A14 (out), 52 P27/A15 (out), 53 P50/A16 (out), 54 P51/A17 (out), 55 P52/A18 (out), 56 P53/A19 (out), 57 VSS (power), 58 P60/~{WAIT} (io), 59 P61/~{BREQ} (io), 60 P62~{/BACK} (io), 61 Ø (out), 62 ~{STBY} (in), 63 ~{RES} (in), 64 NMI (in), 65 VSS (power), 66 EXTAL (in), 67 XTAL (in), 68 VCC (power), 69 P63/~{AS} (out), 70 P64/~{RD} (out), 71 P65/~{HWR} (out), 72 P66/~{LWR} (out), 73 MD0 (in), 74 MD1 (in), 75 MD2 (in), 76 AVCC (power), 77 VREF (power), 78 P70/AN0 (in), 79 P71/AN1 (in), 80 P72/AN2 (in), 81 P73/AN3 (in), 82 P74/AN4 (in), 83 P75/AN5 (in), 84 P76/AN6/DA0 (in), 85 P77/AN7/DA1 (in), 86 AVSS (power), 87 P80/~{RFSH}/~{IRQ0} (io), 88 P81/~{CS3}/~{IRQ1} (io), 89 P82/~{CS2}/~{IRQ2} (io), 90 P83/~{CS1}/~{IRQ3} (io), 91 P84/~{CS0} (io), 92 VSS (power), 93 PA0/TP0/~{TEND0}/TCLKA (io), 94 PA1/TP1/~{TEND1}/TCLKB (io), 95 PA2/TP2/TIOCA0/TCLKC (io), 96 PA3/TP3/TIOCB0/TCLKD (io), 97 PA4/TP4/TIOCA1/A23/~{CS6} (io), 98 PA5/TP5/TIOCB1/A22/~{CS5} (io), 99 PA6/TP6/TIOCA2/A21/~{CS4} (io), 100 PA7/TP7/TIOCB2/A20 (io)

## HD6433060BXXXF
designator U?
H8 Family 32/16-bit CISC, H8/300H, 64K ROM, 2K RAM, 25MHz, 4.5 to 5.5V, 100-Pin QFP; Published: 28-Aug-2009; DatasheetVersion: Rev.6.00, Mar-2005; PackageVersion: Sep-2009; PackageReference: PRQP0100KA-A; Publisher: Altium Limited; PackageDescription: 100-Pin Plastic Quad Flat Pack, 14 x 14 x 2.7 mm Body, 0.5 mm Pitch; Code_JEITA: P-QFP100-14x14-0.50; ComponentLink1Description: Manufacturer Link; ComponentLink1URL: http://sg.renesas.com/fmwk.jsp?cnt=h8_family_landing.jsp&fp=/products/mpumcu/h8_family/; ComponentLink2Description: Datasheet; ComponentLink2URL: http://documentation.renesas.com/eng/products/mpumcu/rej09b0215_h83062.pdf; ComponentLink3Description: Packaging Specification; ComponentLink3URL: http://sg.renesas.com/media/products/common_info/package/pdf/ic/code/prqp0100ka_a.pdf
footprint PRQP0100KA-A_N (Shrink QFP, 100-Leads, Body 14x14mm, Pitch 0.5mm, IPC Medium Density)
footprint PRQP0100KA-A_L (Shrink QFP, 100-Leads, Body 14x14mm, Pitch 0.5mm, IPC High Density)
footprint PRQP0100KA-A_M (Shrink QFP, 100-Leads, Body 14x14mm, Pitch 0.5mm, IPC Low Density)
pins: 1 VCC (power), 2 PB0/TP8/TMO0/~{CS7} (io), 3 PB1/TP9/TMIO1/~{CS6} (io), 4 PB2/TP10/TMO2/~{CS5} (io), 5 PB3/TP11/TMIO3/~{CS4} (io), 6 PB4/TP12 (io), 7 PB5/TP13 (io), 8 PB6/TP14 (io), 9 PB7/TP15 (io), 10 ~{RESO} (out), 11 VSS (power), 12 P90/TXD0 (io), 13 P91/TXD1 (io), 14 P92/RXD0 (io), 15 P93/RXD1 (io), 16 P94/SCK0/~{IRQ4} (io), 17 P95/SCK1/~{IRQ5} (io), 18 P40/D0 (io), 19 P41/D1 (io), 20 P42/D2 (io), 21 P43/D3 (io), 22 VSS (power), 23 P44/D4 (io), 24 P45/D5 (io), 25 P46/D6 (io), 26 P47/D7 (io), 27 P30/D8 (io), 28 P31/D9 (io), 29 P32/D10 (io), 30 P33/D11 (io), 31 P34/D12 (io), 32 P35/D13 (io), 33 P36/D14 (io), 34 P37/D15 (io), 35 VCC (power), 36 P10/A0 (io), 37 P11/A1 (io), 38 P12/A2 (io), 39 P13/A3 (io), 40 P14/A4 (io), 41 P15/A5 (io), 42 P16/A6 (io), 43 P17/A7 (io), 44 VSS (power), 45 P20/A8 (io), 46 P21/A9 (io), 47 P22/A10 (io), 48 P23/A11 (io), 49 P24/A12 (io), 50 P25/A13 (io), 51 P26/A14 (io), 52 P27/A15 (io), 53 P50/A16 (io), 54 P51/A17 (io), 55 P52/A18 (io), 56 P53/A19 (io), 57 VSS (power), 58 P60/~{WAIT} (io), 59 P61/~{BREQ} (io), 60 P62/~{BACK} (io), 61 P67/Ø (io), 62 ~{STBY} (in), 63 ~{RES} (in), 64 NMI (in), 65 VSS (power), 66 EXTAL (in), 67 XTAL (in), 68 VCC (power), 69 P63/~{AS} (io), 70 P64/~{RD} (io), 71 P65/~{HWR} (io), 72 P66/~{LWR} (io), 73 MD0 (in), 74 MD1 (in), 75 MD2 (in), 76 AVCC (power), 77 VREF (power), 78 P70/AN0 (in), 79 P71/AN1 (in), 80 P72/AN2 (in), 81 P73/AN3 (in), 82 P74/AN4 (in), 83 P75/AN5 (in), 84 P76/AN6/DA0 (io), 85 P77/AN7/DA1 (io), 86 AVSS (power), 87 P80/~{IRQ0} (io), 88 P81/~{IRQ1}/~{CS3} (io), 89 P82/~{IRQ2}/~{CS2} (io), 90 P83/~{IRQ3}/~{CS1}/~{ADTRG} (io), 91 P84/~{CS0} (io), 92 VSS (power), 93 PA0/TP0/TCLKA (io), 94 PA1/TP1/TCLKB (io), 95 PA2/TP2/TIOCA0/TCLKC (io), 96 PA3/TP3/TIOCB0/TCLKD (io), 97 PA4/TP4/TIOCA1/A23 (io), 98 PA5/TP5/TIOCB1/A22 (io), 99 PA6/TP6/TIOCA2/A21 (io), 100 PA7/TP7/TIOCB2/A20 (io)

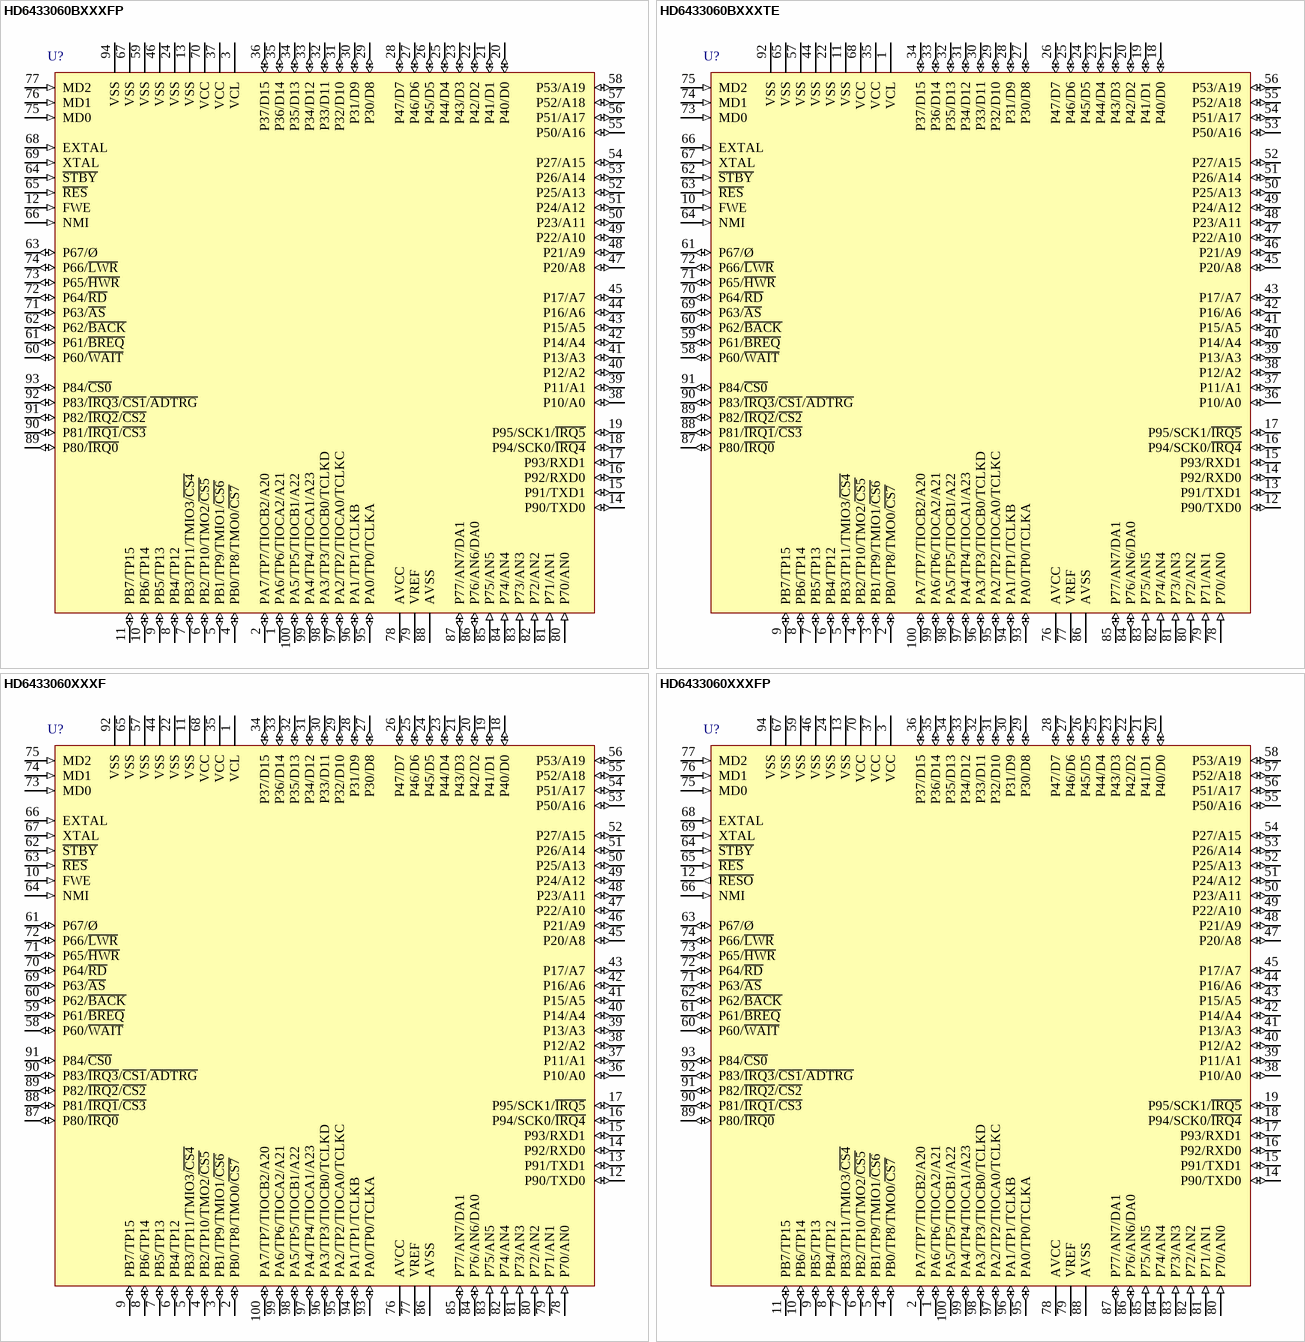
[diagram p43: symbols HD6433060BXXXFP to HD6433060XXXFP]

## HD6433060BXXXFP
designator U?
H8 Family 32/16-bit CISC, H8/300H, 64K ROM, 2K RAM, 25MHz, 4.5 to 5.5V, 100-Pin QFP; Published: 28-Aug-2009; DatasheetVersion: Rev.6.00, Mar-2005; PackageVersion: Sep-2005; PackageReference: PRQP0100JE-B; Publisher: Altium Limited; PackageDescription: 100-Pin Plastic Quad Flat Pack, 20 x 14 x 2.7 mm Body, 0.65 mm Pitch; Code_JEITA: P-QFP100-14x20-0.65; ComponentLink1Description: Manufacturer Link; ComponentLink1URL: http://sg.renesas.com/fmwk.jsp?cnt=h8_family_landing.jsp&fp=/products/mpumcu/h8_family/; ComponentLink2Description: Datasheet; ComponentLink2URL: http://documentation.renesas.com/eng/products/mpumcu/rej09b0215_h83062.pdf; ComponentLink3Description: Packaging Specification; ComponentLink3URL: http://sg.renesas.com/media/products/common_info/package/pdf/ic/code/prqp0100je_b.pdf
footprint PRQP0100JE-B_N (QFP, 100-Leads, Body 20x14mm, Pitch 0.65mm, IPC Medium Density)
footprint PRQP0100JE-B_L (QFP, 100-Leads, Body 20x14mm, Pitch 0.65mm, IPC High Density)
footprint PRQP0100JE-B_M (QFP, 100-Leads, Body 20x14mm, Pitch 0.65mm, IPC Low Density)
pins: 1 PA6/TP6/TIOCA2/A21 (io), 2 PA7/TP7/TIOCB2/A20 (io), 3 VCL (power), 4 PB0/TP8/TMO0/~{CS7} (io), 5 PB1/TP9/TMIO1/~{CS6} (io), 6 PB2/TP10/TMO2/~{CS5} (io), 7 PB3/TP11/TMIO3/~{CS4} (io), 8 PB4/TP12 (io), 9 PB5/TP13 (io), 10 PB6/TP14 (io), 11 PB7/TP15 (io), 12 FWE (in), 13 VSS (power), 14 P90/TXD0 (io), 15 P91/TXD1 (io), 16 P92/RXD0 (io), 17 P93/RXD1 (io), 18 P94/SCK0/~{IRQ4} (io), 19 P95/SCK1/~{IRQ5} (io), 20 P40/D0 (io), 21 P41/D1 (io), 22 P42/D2 (io), 23 P43/D3 (io), 24 VSS (power), 25 P44/D4 (io), 26 P45/D5 (io), 27 P46/D6 (io), 28 P47/D7 (io), 29 P30/D8 (io), 30 P31/D9 (io), 31 P32/D10 (io), 32 P33/D11 (io), 33 P34/D12 (io), 34 P35/D13 (io), 35 P36/D14 (io), 36 P37/D15 (io), 37 VCC (power), 38 P10/A0 (io), 39 P11/A1 (io), 40 P12/A2 (io), 41 P13/A3 (io), 42 P14/A4 (io), 43 P15/A5 (io), 44 P16/A6 (io), 45 P17/A7 (io), 46 VSS (power), 47 P20/A8 (io), 48 P21/A9 (io), 49 P22/A10 (io), 50 P23/A11 (io), 51 P24/A12 (io), 52 P25/A13 (io), 53 P26/A14 (io), 54 P27/A15 (io), 55 P50/A16 (io), 56 P51/A17 (io), 57 P52/A18 (io), 58 P53/A19 (io), 59 VSS (power), 60 P60/~{WAIT} (io), 61 P61/~{BREQ} (io), 62 P62/~{BACK} (io), 63 P67/Ø (io), 64 ~{STBY} (in), 65 ~{RES} (in), 66 NMI (in), 67 VSS (power), 68 EXTAL (in), 69 XTAL (in), 70 VCC (power), 71 P63/~{AS} (io), 72 P64/~{RD} (io), 73 P65/~{HWR} (io), 74 P66/~{LWR} (io), 75 MD0 (in), 76 MD1 (in), 77 MD2 (in), 78 AVCC (power), 79 VREF (power), 80 P70/AN0 (in), 81 P71/AN1 (in), 82 P72/AN2 (in), 83 P73/AN3 (in), 84 P74/AN4 (in), 85 P75/AN5 (in), 86 P76/AN6/DA0 (io), 87 P77/AN7/DA1 (io), 88 AVSS (power), 89 P80/~{IRQ0} (io), 90 P81/~{IRQ1}/~{CS3} (io), 91 P82/~{IRQ2}/~{CS2} (io), 92 P83/~{IRQ3}/~{CS1}/~{ADTRG} (io), 93 P84/~{CS0} (io), 94 VSS (power), 95 PA0/TP0/TCLKA (io), 96 PA1/TP1/TCLKB (io), 97 PA2/TP2/TIOCA0/TCLKC (io), 98 PA3/TP3/TIOCB0/TCLKD (io), 99 PA4/TP4/TIOCA1/A23 (io), 100 PA5/TP5/TIOCB1/A22 (io)

## HD6433060BXXXTE
designator U?
H8 Family 32/16-bit CISC, H8/300H, 64K ROM, 2K RAM, 25MHz, 4.5 to 5.5V, 100-Pin QFP; Published: 28-Aug-2009; DatasheetVersion: Rev.6.00, Mar-2005; PackageVersion: Sep-2005; PackageReference: PTQP0100KA-A; Publisher: Altium Limited; PackageDescription: 100-Pin Plastic Thin Quad Flat Pack, 14 x 14 x 1.0 mm Body, 0.5 mm Pitch; Code_JEITA: P-TQFP100-14x14-0.50; ComponentLink1Description: Manufacturer Link; ComponentLink1URL: http://sg.renesas.com/fmwk.jsp?cnt=h8_family_landing.jsp&fp=/products/mpumcu/h8_family/; ComponentLink2Description: Datasheet; ComponentLink2URL: http://documentation.renesas.com/eng/products/mpumcu/rej09b0215_h83062.pdf; ComponentLink3Description: Packaging Specification; ComponentLink3URL: http://sg.renesas.com/media/products/common_info/package/pdf/ic/code/ptqp0100ka_a.pdf
footprint PTQP0100KA-A_N (Thin QFP, 100-Leads, Body 14x14mm, Pitch 0.5mm, IPC Medium Density)
footprint PTQP0100KA-A_L (Thin QFP, 100-Leads, Body 14x14mm, Pitch 0.5mm, IPC High Density)
footprint PTQP0100KA-A_M (Thin QFP, 100-Leads, Body 14x14mm, Pitch 0.5mm, IPC Low Density)
pins: 1 VCL (power), 2 PB0/TP8/TMO0/~{CS7} (io), 3 PB1/TP9/TMIO1/~{CS6} (io), 4 PB2/TP10/TMO2/~{CS5} (io), 5 PB3/TP11/TMIO3/~{CS4} (io), 6 PB4/TP12 (io), 7 PB5/TP13 (io), 8 PB6/TP14 (io), 9 PB7/TP15 (io), 10 FWE (in), 11 VSS (power), 12 P90/TXD0 (io), 13 P91/TXD1 (io), 14 P92/RXD0 (io), 15 P93/RXD1 (io), 16 P94/SCK0/~{IRQ4} (io), 17 P95/SCK1/~{IRQ5} (io), 18 P40/D0 (io), 19 P41/D1 (io), 20 P42/D2 (io), 21 P43/D3 (io), 22 VSS (power), 23 P44/D4 (io), 24 P45/D5 (io), 25 P46/D6 (io), 26 P47/D7 (io), 27 P30/D8 (io), 28 P31/D9 (io), 29 P32/D10 (io), 30 P33/D11 (io), 31 P34/D12 (io), 32 P35/D13 (io), 33 P36/D14 (io), 34 P37/D15 (io), 35 VCC (power), 36 P10/A0 (io), 37 P11/A1 (io), 38 P12/A2 (io), 39 P13/A3 (io), 40 P14/A4 (io), 41 P15/A5 (io), 42 P16/A6 (io), 43 P17/A7 (io), 44 VSS (power), 45 P20/A8 (io), 46 P21/A9 (io), 47 P22/A10 (io), 48 P23/A11 (io), 49 P24/A12 (io), 50 P25/A13 (io), 51 P26/A14 (io), 52 P27/A15 (io), 53 P50/A16 (io), 54 P51/A17 (io), 55 P52/A18 (io), 56 P53/A19 (io), 57 VSS (power), 58 P60/~{WAIT} (io), 59 P61/~{BREQ} (io), 60 P62/~{BACK} (io), 61 P67/Ø (io), 62 ~{STBY} (in), 63 ~{RES} (in), 64 NMI (in), 65 VSS (power), 66 EXTAL (in), 67 XTAL (in), 68 VCC (power), 69 P63/~{AS} (io), 70 P64/~{RD} (io), 71 P65/~{HWR} (io), 72 P66/~{LWR} (io), 73 MD0 (in), 74 MD1 (in), 75 MD2 (in), 76 AVCC (power), 77 VREF (power), 78 P70/AN0 (in), 79 P71/AN1 (in), 80 P72/AN2 (in), 81 P73/AN3 (in), 82 P74/AN4 (in), 83 P75/AN5 (in), 84 P76/AN6/DA0 (io), 85 P77/AN7/DA1 (io), 86 AVSS (power), 87 P80/~{IRQ0} (io), 88 P81/~{IRQ1}/~{CS3} (io), 89 P82/~{IRQ2}/~{CS2} (io), 90 P83/~{IRQ3}/~{CS1}/~{ADTRG} (io), 91 P84/~{CS0} (io), 92 VSS (power), 93 PA0/TP0/TCLKA (io), 94 PA1/TP1/TCLKB (io), 95 PA2/TP2/TIOCA0/TCLKC (io), 96 PA3/TP3/TIOCB0/TCLKD (io), 97 PA4/TP4/TIOCA1/A23 (io), 98 PA5/TP5/TIOCB1/A22 (io), 99 PA6/TP6/TIOCA2/A21 (io), 100 PA7/TP7/TIOCB2/A20 (io)

## HD6433060XXXF
designator U?
H8 Family 32/16-bit CISC, H8/300H, 64K ROM, 2K RAM, 20MHz, 4.5 to 5.5V, 100-Pin QFP; Published: 28-Aug-2009; DatasheetVersion: Rev.6.00, Mar-2005; PackageVersion: Sep-2009; PackageReference: PRQP0100KA-A; Publisher: Altium Limited; PackageDescription: 100-Pin Plastic Quad Flat Pack, 14 x 14 x 2.7 mm Body, 0.5 mm Pitch; Code_JEITA: P-QFP100-14x14-0.50; ComponentLink1Description: Manufacturer Link; ComponentLink1URL: http://sg.renesas.com/fmwk.jsp?cnt=h8_family_landing.jsp&fp=/products/mpumcu/h8_family/; ComponentLink2Description: Datasheet; ComponentLink2URL: http://documentation.renesas.com/eng/products/mpumcu/rej09b0215_h83062.pdf; ComponentLink3Description: Packaging Specification; ComponentLink3URL: http://sg.renesas.com/media/products/common_info/package/pdf/ic/code/prqp0100ka_a.pdf
footprint PRQP0100KA-A_N (Shrink QFP, 100-Leads, Body 14x14mm, Pitch 0.5mm, IPC Medium Density)
footprint PRQP0100KA-A_L (Shrink QFP, 100-Leads, Body 14x14mm, Pitch 0.5mm, IPC High Density)
footprint PRQP0100KA-A_M (Shrink QFP, 100-Leads, Body 14x14mm, Pitch 0.5mm, IPC Low Density)
pins: 1 VCL (power), 2 PB0/TP8/TMO0/~{CS7} (io), 3 PB1/TP9/TMIO1/~{CS6} (io), 4 PB2/TP10/TMO2/~{CS5} (io), 5 PB3/TP11/TMIO3/~{CS4} (io), 6 PB4/TP12 (io), 7 PB5/TP13 (io), 8 PB6/TP14 (io), 9 PB7/TP15 (io), 10 FWE (in), 11 VSS (power), 12 P90/TXD0 (io), 13 P91/TXD1 (io), 14 P92/RXD0 (io), 15 P93/RXD1 (io), 16 P94/SCK0/~{IRQ4} (io), 17 P95/SCK1/~{IRQ5} (io), 18 P40/D0 (io), 19 P41/D1 (io), 20 P42/D2 (io), 21 P43/D3 (io), 22 VSS (power), 23 P44/D4 (io), 24 P45/D5 (io), 25 P46/D6 (io), 26 P47/D7 (io), 27 P30/D8 (io), 28 P31/D9 (io), 29 P32/D10 (io), 30 P33/D11 (io), 31 P34/D12 (io), 32 P35/D13 (io), 33 P36/D14 (io), 34 P37/D15 (io), 35 VCC (power), 36 P10/A0 (io), 37 P11/A1 (io), 38 P12/A2 (io), 39 P13/A3 (io), 40 P14/A4 (io), 41 P15/A5 (io), 42 P16/A6 (io), 43 P17/A7 (io), 44 VSS (power), 45 P20/A8 (io), 46 P21/A9 (io), 47 P22/A10 (io), 48 P23/A11 (io), 49 P24/A12 (io), 50 P25/A13 (io), 51 P26/A14 (io), 52 P27/A15 (io), 53 P50/A16 (io), 54 P51/A17 (io), 55 P52/A18 (io), 56 P53/A19 (io), 57 VSS (power), 58 P60/~{WAIT} (io), 59 P61/~{BREQ} (io), 60 P62/~{BACK} (io), 61 P67/Ø (io), 62 ~{STBY} (in), 63 ~{RES} (in), 64 NMI (in), 65 VSS (power), 66 EXTAL (in), 67 XTAL (in), 68 VCC (power), 69 P63/~{AS} (io), 70 P64/~{RD} (io), 71 P65/~{HWR} (io), 72 P66/~{LWR} (io), 73 MD0 (in), 74 MD1 (in), 75 MD2 (in), 76 AVCC (power), 77 VREF (power), 78 P70/AN0 (in), 79 P71/AN1 (in), 80 P72/AN2 (in), 81 P73/AN3 (in), 82 P74/AN4 (in), 83 P75/AN5 (in), 84 P76/AN6/DA0 (io), 85 P77/AN7/DA1 (io), 86 AVSS (power), 87 P80/~{IRQ0} (io), 88 P81/~{IRQ1}/~{CS3} (io), 89 P82/~{IRQ2}/~{CS2} (io), 90 P83/~{IRQ3}/~{CS1}/~{ADTRG} (io), 91 P84/~{CS0} (io), 92 VSS (power), 93 PA0/TP0/TCLKA (io), 94 PA1/TP1/TCLKB (io), 95 PA2/TP2/TIOCA0/TCLKC (io), 96 PA3/TP3/TIOCB0/TCLKD (io), 97 PA4/TP4/TIOCA1/A23 (io), 98 PA5/TP5/TIOCB1/A22 (io), 99 PA6/TP6/TIOCA2/A21 (io), 100 PA7/TP7/TIOCB2/A20 (io)

## HD6433060XXXFP
designator U?
H8 Family 32/16-bit CISC, H8/300H, 64K ROM, 2K RAM, 20MHz, 4.5 to 5.5V, 100-Pin QFP; Published: 28-Aug-2009; DatasheetVersion: Rev.6.00, Mar-2005; PackageVersion: Sep-2005; PackageReference: PRQP0100JE-B; Publisher: Altium Limited; PackageDescription: 100-Pin Plastic Quad Flat Pack, 20 x 14 x 2.7 mm Body, 0.65 mm Pitch; Code_JEITA: P-QFP100-14x20-0.65; ComponentLink1Description: Manufacturer Link; ComponentLink1URL: http://sg.renesas.com/fmwk.jsp?cnt=h8_family_landing.jsp&fp=/products/mpumcu/h8_family/; ComponentLink2Description: Datasheet; ComponentLink2URL: http://documentation.renesas.com/eng/products/mpumcu/rej09b0215_h83062.pdf; ComponentLink3Description: Packaging Specification; ComponentLink3URL: http://sg.renesas.com/media/products/common_info/package/pdf/ic/code/prqp0100je_b.pdf
footprint PRQP0100JE-B_N (QFP, 100-Leads, Body 20x14mm, Pitch 0.65mm, IPC Medium Density)
footprint PRQP0100JE-B_L (QFP, 100-Leads, Body 20x14mm, Pitch 0.65mm, IPC High Density)
footprint PRQP0100JE-B_M (QFP, 100-Leads, Body 20x14mm, Pitch 0.65mm, IPC Low Density)
pins: 1 PA6/TP6/TIOCA2/A21 (io), 2 PA7/TP7/TIOCB2/A20 (io), 3 VCC (power), 4 PB0/TP8/TMO0/~{CS7} (io), 5 PB1/TP9/TMIO1/~{CS6} (io), 6 PB2/TP10/TMO2/~{CS5} (io), 7 PB3/TP11/TMIO3/~{CS4} (io), 8 PB4/TP12 (io), 9 PB5/TP13 (io), 10 PB6/TP14 (io), 11 PB7/TP15 (io), 12 ~{RESO} (out), 13 VSS (power), 14 P90/TXD0 (io), 15 P91/TXD1 (io), 16 P92/RXD0 (io), 17 P93/RXD1 (io), 18 P94/SCK0/~{IRQ4} (io), 19 P95/SCK1/~{IRQ5} (io), 20 P40/D0 (io), 21 P41/D1 (io), 22 P42/D2 (io), 23 P43/D3 (io), 24 VSS (power), 25 P44/D4 (io), 26 P45/D5 (io), 27 P46/D6 (io), 28 P47/D7 (io), 29 P30/D8 (io), 30 P31/D9 (io), 31 P32/D10 (io), 32 P33/D11 (io), 33 P34/D12 (io), 34 P35/D13 (io), 35 P36/D14 (io), 36 P37/D15 (io), 37 VCC (power), 38 P10/A0 (io), 39 P11/A1 (io), 40 P12/A2 (io), 41 P13/A3 (io), 42 P14/A4 (io), 43 P15/A5 (io), 44 P16/A6 (io), 45 P17/A7 (io), 46 VSS (power), 47 P20/A8 (io), 48 P21/A9 (io), 49 P22/A10 (io), 50 P23/A11 (io), 51 P24/A12 (io), 52 P25/A13 (io), 53 P26/A14 (io), 54 P27/A15 (io), 55 P50/A16 (io), 56 P51/A17 (io), 57 P52/A18 (io), 58 P53/A19 (io), 59 VSS (power), 60 P60/~{WAIT} (io), 61 P61/~{BREQ} (io), 62 P62/~{BACK} (io), 63 P67/Ø (io), 64 ~{STBY} (in), 65 ~{RES} (in), 66 NMI (in), 67 VSS (power), 68 EXTAL (in), 69 XTAL (in), 70 VCC (power), 71 P63/~{AS} (io), 72 P64/~{RD} (io), 73 P65/~{HWR} (io), 74 P66/~{LWR} (io), 75 MD0 (in), 76 MD1 (in), 77 MD2 (in), 78 AVCC (power), 79 VREF (power), 80 P70/AN0 (in), 81 P71/AN1 (in), 82 P72/AN2 (in), 83 P73/AN3 (in), 84 P74/AN4 (in), 85 P75/AN5 (in), 86 P76/AN6/DA0 (io), 87 P77/AN7/DA1 (io), 88 AVSS (power), 89 P80/~{IRQ0} (io), 90 P81/~{IRQ1}/~{CS3} (io), 91 P82/~{IRQ2}/~{CS2} (io), 92 P83/~{IRQ3}/~{CS1}/~{ADTRG} (io), 93 P84/~{CS0} (io), 94 VSS (power), 95 PA0/TP0/TCLKA (io), 96 PA1/TP1/TCLKB (io), 97 PA2/TP2/TIOCA0/TCLKC (io), 98 PA3/TP3/TIOCB0/TCLKD (io), 99 PA4/TP4/TIOCA1/A23 (io), 100 PA5/TP5/TIOCB1/A22 (io)

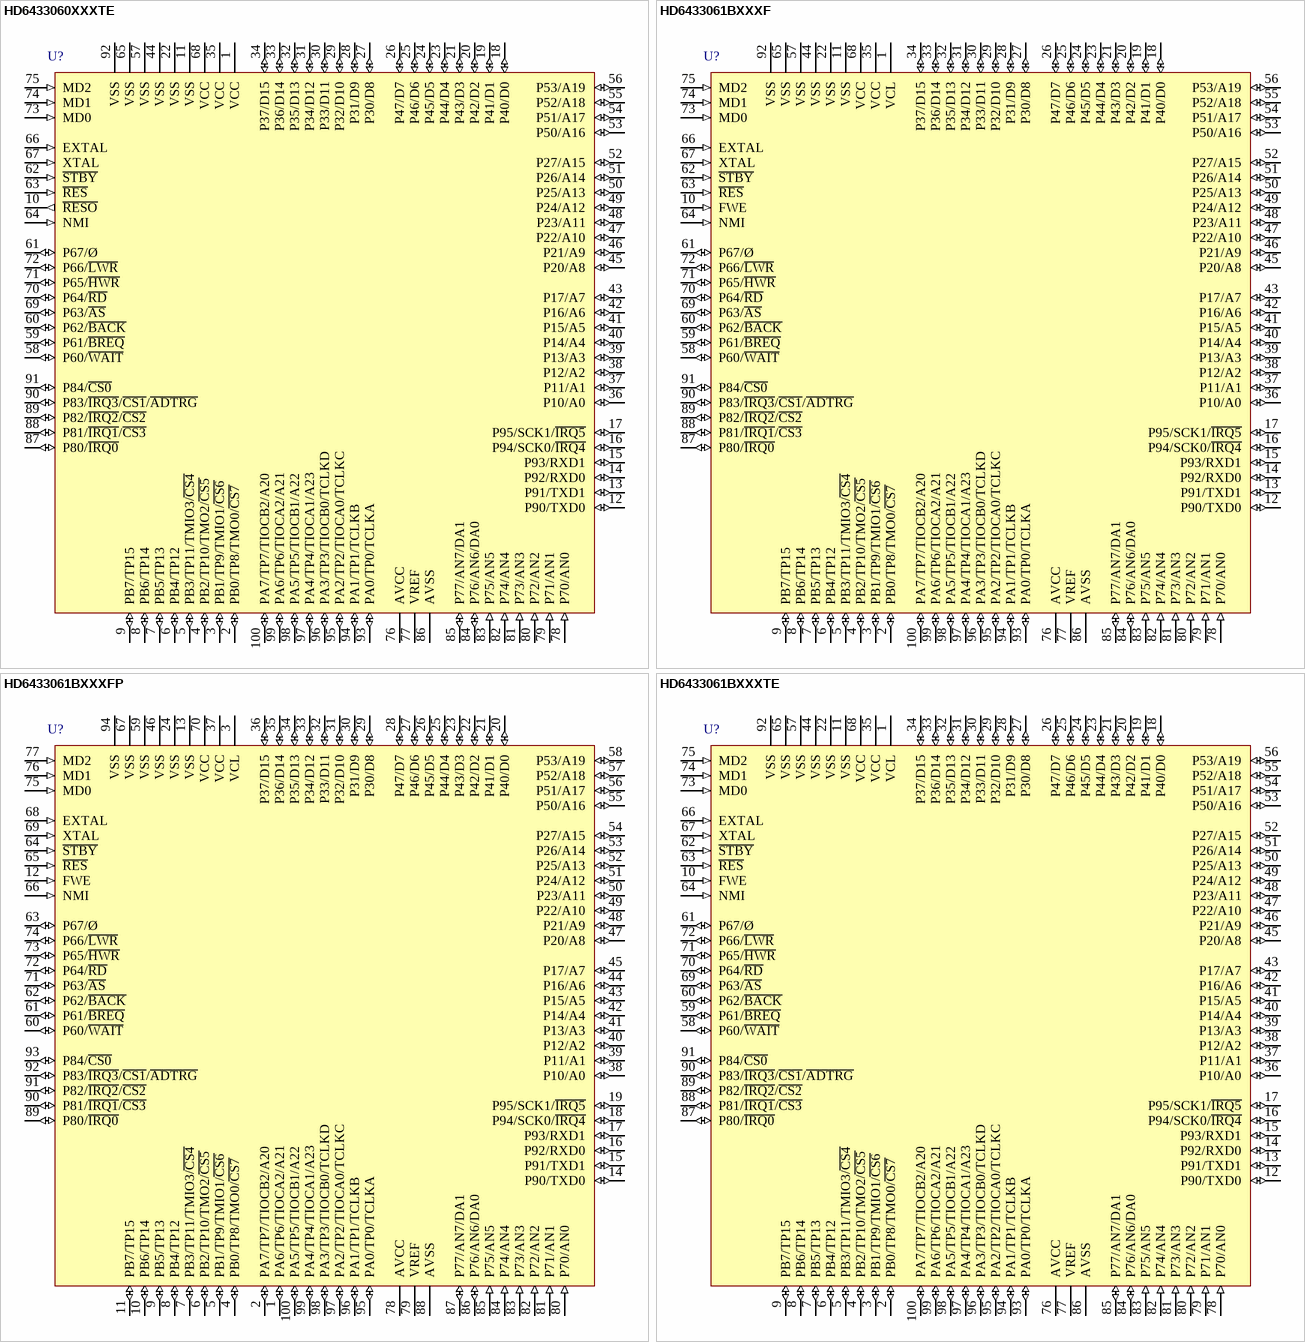
[diagram p44: symbols HD6433060XXXTE to HD6433061BXXXTE]

## HD6433060XXXTE
designator U?
H8 Family 32/16-bit CISC, H8/300H, 64K ROM, 2K RAM, 20MHz, 4.5 to 5.5V, 100-Pin QFP; Published: 28-Aug-2009; DatasheetVersion: Rev.6.00, Mar-2005; PackageVersion: Sep-2005; PackageReference: PTQP0100KA-A; Publisher: Altium Limited; PackageDescription: 100-Pin Plastic Thin Quad Flat Pack, 14 x 14 x 1.0 mm Body, 0.5 mm Pitch; Code_JEITA: P-TQFP100-14x14-0.50; ComponentLink1Description: Manufacturer Link; ComponentLink1URL: http://sg.renesas.com/fmwk.jsp?cnt=h8_family_landing.jsp&fp=/products/mpumcu/h8_family/; ComponentLink2Description: Datasheet; ComponentLink2URL: http://documentation.renesas.com/eng/products/mpumcu/rej09b0215_h83062.pdf; ComponentLink3Description: Packaging Specification; ComponentLink3URL: http://sg.renesas.com/media/products/common_info/package/pdf/ic/code/ptqp0100ka_a.pdf
footprint PTQP0100KA-A_N (Thin QFP, 100-Leads, Body 14x14mm, Pitch 0.5mm, IPC Medium Density)
footprint PTQP0100KA-A_L (Thin QFP, 100-Leads, Body 14x14mm, Pitch 0.5mm, IPC High Density)
footprint PTQP0100KA-A_M (Thin QFP, 100-Leads, Body 14x14mm, Pitch 0.5mm, IPC Low Density)
pins: 1 VCC (power), 2 PB0/TP8/TMO0/~{CS7} (io), 3 PB1/TP9/TMIO1/~{CS6} (io), 4 PB2/TP10/TMO2/~{CS5} (io), 5 PB3/TP11/TMIO3/~{CS4} (io), 6 PB4/TP12 (io), 7 PB5/TP13 (io), 8 PB6/TP14 (io), 9 PB7/TP15 (io), 10 ~{RESO} (out), 11 VSS (power), 12 P90/TXD0 (io), 13 P91/TXD1 (io), 14 P92/RXD0 (io), 15 P93/RXD1 (io), 16 P94/SCK0/~{IRQ4} (io), 17 P95/SCK1/~{IRQ5} (io), 18 P40/D0 (io), 19 P41/D1 (io), 20 P42/D2 (io), 21 P43/D3 (io), 22 VSS (power), 23 P44/D4 (io), 24 P45/D5 (io), 25 P46/D6 (io), 26 P47/D7 (io), 27 P30/D8 (io), 28 P31/D9 (io), 29 P32/D10 (io), 30 P33/D11 (io), 31 P34/D12 (io), 32 P35/D13 (io), 33 P36/D14 (io), 34 P37/D15 (io), 35 VCC (power), 36 P10/A0 (io), 37 P11/A1 (io), 38 P12/A2 (io), 39 P13/A3 (io), 40 P14/A4 (io), 41 P15/A5 (io), 42 P16/A6 (io), 43 P17/A7 (io), 44 VSS (power), 45 P20/A8 (io), 46 P21/A9 (io), 47 P22/A10 (io), 48 P23/A11 (io), 49 P24/A12 (io), 50 P25/A13 (io), 51 P26/A14 (io), 52 P27/A15 (io), 53 P50/A16 (io), 54 P51/A17 (io), 55 P52/A18 (io), 56 P53/A19 (io), 57 VSS (power), 58 P60/~{WAIT} (io), 59 P61/~{BREQ} (io), 60 P62/~{BACK} (io), 61 P67/Ø (io), 62 ~{STBY} (in), 63 ~{RES} (in), 64 NMI (in), 65 VSS (power), 66 EXTAL (in), 67 XTAL (in), 68 VCC (power), 69 P63/~{AS} (io), 70 P64/~{RD} (io), 71 P65/~{HWR} (io), 72 P66/~{LWR} (io), 73 MD0 (in), 74 MD1 (in), 75 MD2 (in), 76 AVCC (power), 77 VREF (power), 78 P70/AN0 (in), 79 P71/AN1 (in), 80 P72/AN2 (in), 81 P73/AN3 (in), 82 P74/AN4 (in), 83 P75/AN5 (in), 84 P76/AN6/DA0 (io), 85 P77/AN7/DA1 (io), 86 AVSS (power), 87 P80/~{IRQ0} (io), 88 P81/~{IRQ1}/~{CS3} (io), 89 P82/~{IRQ2}/~{CS2} (io), 90 P83/~{IRQ3}/~{CS1}/~{ADTRG} (io), 91 P84/~{CS0} (io), 92 VSS (power), 93 PA0/TP0/TCLKA (io), 94 PA1/TP1/TCLKB (io), 95 PA2/TP2/TIOCA0/TCLKC (io), 96 PA3/TP3/TIOCB0/TCLKD (io), 97 PA4/TP4/TIOCA1/A23 (io), 98 PA5/TP5/TIOCB1/A22 (io), 99 PA6/TP6/TIOCA2/A21 (io), 100 PA7/TP7/TIOCB2/A20 (io)

## HD6433061BXXXF
designator U?
H8 Family 32/16-bit CISC, H8/300H, 96K ROM, 4K RAM, 25MHz, 4.5 to 5.5V, 100-Pin QFP; Published: 28-Aug-2009; DatasheetVersion: Rev.6.00, Mar-2005; PackageVersion: Sep-2009; PackageReference: PRQP0100KA-A; Publisher: Altium Limited; PackageDescription: 100-Pin Plastic Quad Flat Pack, 14 x 14 x 2.7 mm Body, 0.5 mm Pitch; Code_JEITA: P-QFP100-14x14-0.50; ComponentLink1Description: Manufacturer Link; ComponentLink1URL: http://sg.renesas.com/fmwk.jsp?cnt=h8_family_landing.jsp&fp=/products/mpumcu/h8_family/; ComponentLink2Description: Datasheet; ComponentLink2URL: http://documentation.renesas.com/eng/products/mpumcu/rej09b0215_h83062.pdf; ComponentLink3Description: Packaging Specification; ComponentLink3URL: http://sg.renesas.com/media/products/common_info/package/pdf/ic/code/prqp0100ka_a.pdf
footprint PRQP0100KA-A_N (Shrink QFP, 100-Leads, Body 14x14mm, Pitch 0.5mm, IPC Medium Density)
footprint PRQP0100KA-A_L (Shrink QFP, 100-Leads, Body 14x14mm, Pitch 0.5mm, IPC High Density)
footprint PRQP0100KA-A_M (Shrink QFP, 100-Leads, Body 14x14mm, Pitch 0.5mm, IPC Low Density)
pins: 1 VCL (power), 2 PB0/TP8/TMO0/~{CS7} (io), 3 PB1/TP9/TMIO1/~{CS6} (io), 4 PB2/TP10/TMO2/~{CS5} (io), 5 PB3/TP11/TMIO3/~{CS4} (io), 6 PB4/TP12 (io), 7 PB5/TP13 (io), 8 PB6/TP14 (io), 9 PB7/TP15 (io), 10 FWE (in), 11 VSS (power), 12 P90/TXD0 (io), 13 P91/TXD1 (io), 14 P92/RXD0 (io), 15 P93/RXD1 (io), 16 P94/SCK0/~{IRQ4} (io), 17 P95/SCK1/~{IRQ5} (io), 18 P40/D0 (io), 19 P41/D1 (io), 20 P42/D2 (io), 21 P43/D3 (io), 22 VSS (power), 23 P44/D4 (io), 24 P45/D5 (io), 25 P46/D6 (io), 26 P47/D7 (io), 27 P30/D8 (io), 28 P31/D9 (io), 29 P32/D10 (io), 30 P33/D11 (io), 31 P34/D12 (io), 32 P35/D13 (io), 33 P36/D14 (io), 34 P37/D15 (io), 35 VCC (power), 36 P10/A0 (io), 37 P11/A1 (io), 38 P12/A2 (io), 39 P13/A3 (io), 40 P14/A4 (io), 41 P15/A5 (io), 42 P16/A6 (io), 43 P17/A7 (io), 44 VSS (power), 45 P20/A8 (io), 46 P21/A9 (io), 47 P22/A10 (io), 48 P23/A11 (io), 49 P24/A12 (io), 50 P25/A13 (io), 51 P26/A14 (io), 52 P27/A15 (io), 53 P50/A16 (io), 54 P51/A17 (io), 55 P52/A18 (io), 56 P53/A19 (io), 57 VSS (power), 58 P60/~{WAIT} (io), 59 P61/~{BREQ} (io), 60 P62/~{BACK} (io), 61 P67/Ø (io), 62 ~{STBY} (in), 63 ~{RES} (in), 64 NMI (in), 65 VSS (power), 66 EXTAL (in), 67 XTAL (in), 68 VCC (power), 69 P63/~{AS} (io), 70 P64/~{RD} (io), 71 P65/~{HWR} (io), 72 P66/~{LWR} (io), 73 MD0 (in), 74 MD1 (in), 75 MD2 (in), 76 AVCC (power), 77 VREF (power), 78 P70/AN0 (in), 79 P71/AN1 (in), 80 P72/AN2 (in), 81 P73/AN3 (in), 82 P74/AN4 (in), 83 P75/AN5 (in), 84 P76/AN6/DA0 (io), 85 P77/AN7/DA1 (io), 86 AVSS (power), 87 P80/~{IRQ0} (io), 88 P81/~{IRQ1}/~{CS3} (io), 89 P82/~{IRQ2}/~{CS2} (io), 90 P83/~{IRQ3}/~{CS1}/~{ADTRG} (io), 91 P84/~{CS0} (io), 92 VSS (power), 93 PA0/TP0/TCLKA (io), 94 PA1/TP1/TCLKB (io), 95 PA2/TP2/TIOCA0/TCLKC (io), 96 PA3/TP3/TIOCB0/TCLKD (io), 97 PA4/TP4/TIOCA1/A23 (io), 98 PA5/TP5/TIOCB1/A22 (io), 99 PA6/TP6/TIOCA2/A21 (io), 100 PA7/TP7/TIOCB2/A20 (io)

## HD6433061BXXXFP
designator U?
H8 Family 32/16-bit CISC, H8/300H, 96K ROM, 4K RAM, 25MHz, 4.5 to 5.5V, 100-Pin QFP; Published: 28-Aug-2009; DatasheetVersion: Rev.6.00, Mar-2005; PackageVersion: Sep-2005; PackageReference: PRQP0100JE-B; Publisher: Altium Limited; PackageDescription: 100-Pin Plastic Quad Flat Pack, 20 x 14 x 2.7 mm Body, 0.65 mm Pitch; Code_JEITA: P-QFP100-14x20-0.65; ComponentLink1Description: Manufacturer Link; ComponentLink1URL: http://sg.renesas.com/fmwk.jsp?cnt=h8_family_landing.jsp&fp=/products/mpumcu/h8_family/; ComponentLink2Description: Datasheet; ComponentLink2URL: http://documentation.renesas.com/eng/products/mpumcu/rej09b0215_h83062.pdf; ComponentLink3Description: Packaging Specification; ComponentLink3URL: http://sg.renesas.com/media/products/common_info/package/pdf/ic/code/prqp0100je_b.pdf
footprint PRQP0100JE-B_N (QFP, 100-Leads, Body 20x14mm, Pitch 0.65mm, IPC Medium Density)
footprint PRQP0100JE-B_L (QFP, 100-Leads, Body 20x14mm, Pitch 0.65mm, IPC High Density)
footprint PRQP0100JE-B_M (QFP, 100-Leads, Body 20x14mm, Pitch 0.65mm, IPC Low Density)
pins: 1 PA6/TP6/TIOCA2/A21 (io), 2 PA7/TP7/TIOCB2/A20 (io), 3 VCL (power), 4 PB0/TP8/TMO0/~{CS7} (io), 5 PB1/TP9/TMIO1/~{CS6} (io), 6 PB2/TP10/TMO2/~{CS5} (io), 7 PB3/TP11/TMIO3/~{CS4} (io), 8 PB4/TP12 (io), 9 PB5/TP13 (io), 10 PB6/TP14 (io), 11 PB7/TP15 (io), 12 FWE (in), 13 VSS (power), 14 P90/TXD0 (io), 15 P91/TXD1 (io), 16 P92/RXD0 (io), 17 P93/RXD1 (io), 18 P94/SCK0/~{IRQ4} (io), 19 P95/SCK1/~{IRQ5} (io), 20 P40/D0 (io), 21 P41/D1 (io), 22 P42/D2 (io), 23 P43/D3 (io), 24 VSS (power), 25 P44/D4 (io), 26 P45/D5 (io), 27 P46/D6 (io), 28 P47/D7 (io), 29 P30/D8 (io), 30 P31/D9 (io), 31 P32/D10 (io), 32 P33/D11 (io), 33 P34/D12 (io), 34 P35/D13 (io), 35 P36/D14 (io), 36 P37/D15 (io), 37 VCC (power), 38 P10/A0 (io), 39 P11/A1 (io), 40 P12/A2 (io), 41 P13/A3 (io), 42 P14/A4 (io), 43 P15/A5 (io), 44 P16/A6 (io), 45 P17/A7 (io), 46 VSS (power), 47 P20/A8 (io), 48 P21/A9 (io), 49 P22/A10 (io), 50 P23/A11 (io), 51 P24/A12 (io), 52 P25/A13 (io), 53 P26/A14 (io), 54 P27/A15 (io), 55 P50/A16 (io), 56 P51/A17 (io), 57 P52/A18 (io), 58 P53/A19 (io), 59 VSS (power), 60 P60/~{WAIT} (io), 61 P61/~{BREQ} (io), 62 P62/~{BACK} (io), 63 P67/Ø (io), 64 ~{STBY} (in), 65 ~{RES} (in), 66 NMI (in), 67 VSS (power), 68 EXTAL (in), 69 XTAL (in), 70 VCC (power), 71 P63/~{AS} (io), 72 P64/~{RD} (io), 73 P65/~{HWR} (io), 74 P66/~{LWR} (io), 75 MD0 (in), 76 MD1 (in), 77 MD2 (in), 78 AVCC (power), 79 VREF (power), 80 P70/AN0 (in), 81 P71/AN1 (in), 82 P72/AN2 (in), 83 P73/AN3 (in), 84 P74/AN4 (in), 85 P75/AN5 (in), 86 P76/AN6/DA0 (io), 87 P77/AN7/DA1 (io), 88 AVSS (power), 89 P80/~{IRQ0} (io), 90 P81/~{IRQ1}/~{CS3} (io), 91 P82/~{IRQ2}/~{CS2} (io), 92 P83/~{IRQ3}/~{CS1}/~{ADTRG} (io), 93 P84/~{CS0} (io), 94 VSS (power), 95 PA0/TP0/TCLKA (io), 96 PA1/TP1/TCLKB (io), 97 PA2/TP2/TIOCA0/TCLKC (io), 98 PA3/TP3/TIOCB0/TCLKD (io), 99 PA4/TP4/TIOCA1/A23 (io), 100 PA5/TP5/TIOCB1/A22 (io)